# Altium integrated library Motorola Microcontroller 32-Bit.IntLib: 337 symbols (part 26 of 29)
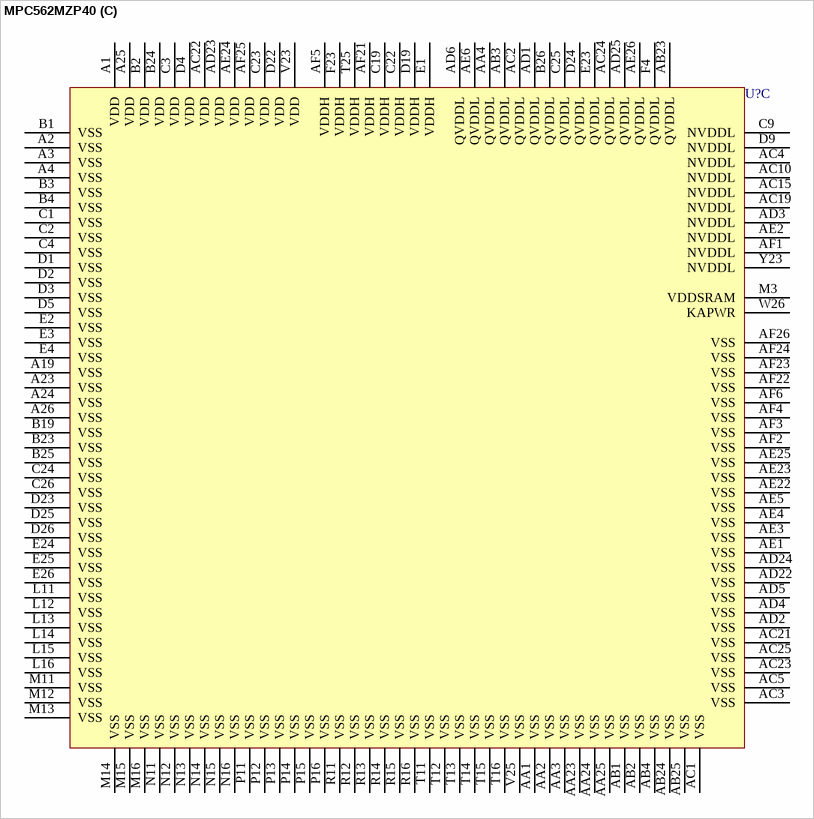
[diagram p264: symbol MPC562MZP40]

## MPC562MZP40
designator U?
32-Bit PowerPC Microcontroller; Published: 21-Mar-2003; LatestRevisionDate: 13-Apr-2006; LatestRevisionNote: IPC-7351 Footprint Added.; DatasheetVersion: 29-Jun-2001; PackageVersion: Jun-2001; PackageReference: 1164-01; Publisher: Altium Limited; PackageDescription: 388-Ball Plastic Ball Grid Array 1 mm Pitch; ComponentLink1Description: Manufacturer Link; ComponentLink1URL: http://www.freescale.com/
footprint 1164-01 (BGA, 388-Leads, Body 27x27mm, Pitch 1mm)
3D model MPC562-1164-01 (388-Ball Plastic Ball Grid Array 1 mm Pitch)
part A pins: AA26 XFC, AB26 VSSSYN (power), AC6 ADDR/SGPIOA10 (io), AC7 ADDR/SGPIOA18 (io), AC8 ADDR/SGPIOA20 (io), AC9 ADDR/SGPIOA23 (io), AC11 ADDR/SGPIOA26 (io), AC12 DATA/SGPIOD1 (io), AC13 DATA/SGPIOD5 (io), AC14 DATA/SGPIOD7 (io), AC16 DATA/SGPIOD9 (io), AC17 DATA/SGPIOD11 (io), AC18 DATA/SGPIOD12 (io), AC20 DATA/SGPIOD14 (io), AC26 EXTAL, AD7 ADDR/SGPIOA13 (io), AD8 ADDR/SGPIOA16 (io), AD9 ADDR/SGPIOA19 (io), AD10 ADDR/SGPIOA21 (io), AD11 ADDR/SGPIOA24 (io), AD12 ADDR/SGPIOA25 (io), AD13 DATA/SGPIOD0 (io), AD14 DATA/SGPIOD28 (io), AD15 DATA/SGPIOD26 (io), AD16 DATA/SGPIOD24 (io), AD17 DATA/SGPIOD22 (io), AD18 DATA/SGPIOD13 (io), AD19 DATA/SGPIOD15 (io), AD20 DATA/SGPIOD16 (io), AD21 ~{IRQ}5/SGPIOC5/MODCK1 (io), AD26 XTAL, AE7 ADDR/SGPIOA14 (io), AE8 ADDR/SGPIOA17 (io), AE9 ADDR/SGPIOA31 (io), AE10 ADDR/SGPIOA30 (io), AE11 ADDR/SGPIOA28 (io), AE12 ADDR/SGPIOA29 (io), AE13 DATA/SGPIOD30 (io), AE14 DATA/SGPIOD29 (io), AE15 DATA/SGPIOD27 (io), AE16 DATA/SGPIOD25 (io), AE17 DATA/SGPIOD23 (io), AE18 DATA/SGPIOD21 (io), AE19 DATA/SGPIOD19 (io), AE20 DATA/SGPIOD17 (io), AE21 ~{IRQ}6/MODCK2 (io), AF7 ADDR/SGPIOA15 (io), AF8 ADDR/SGPIOA9 (io), AF9 ADDR/SGPIOA8 (io), AF10 ADDR/SGPIOA22 (io), AF11 ADDR/SGPIOA27 (io), AF12 DATA/SGPIOD31 (io), AF13 DATA/SGPIOD3 (io), AF14 DATA/SGPIOD2 (io), AF15 DATA/SGPIOD4 (io), AF16 DATA/SGPIOD6 (io), AF17 DATA/SGPIOD8 (io), AF18 DATA/SGPIOD10 (io), AF19 DATA/SGPIOD20 (io), AF20 DATA/SGPIOD18 (io), L1 JCOMP/~{RSTI} (in), L2 TCK/DSCK/MCKI (in), M1 TDI/DSDI/MDI0 (in), M2 TMS/~{EVTI} (in), M4 TDO/DSDO/MDO0 (hiz), N1 ~{IRQ}3/~{KR}/~{RETRY}/SGPIOC3 (io), N2 ~{IWP}0/VFLS0 (out), N3 ~{IWP}1/VFLS1 (out), N4 SGPIOC6/FRZ/~{PTR} (io), N23 PCS2/QGPIO2 (io), N24 PCS1/QGPIO1 (io), N25 PCS0/~{SS}/QGPIO0 (io), P1 ~{IRQ}4/~{AT}2/SGPIOC4 (io), P2 ~{IRQ}2/~{CR}/SGPIOC2/~{MTS} (io), P3 ~{IRQ}0/SGPIOC0/MDO4 (io), P4 ~{IRQ}1/~{RSV}/SGPIOC1 (io), P23 SCK/QGPIO6 (io), P24 MOSI/QGPIO5 (io), P25 MISO/QGPIO4 (io), P26 PCS3/QGPIO3 (io), R1 SGPIOC7/~{IRQOUT}/LWP0 (io), R2 ~{BB}/VF2/IWP3 (io), R3 ~{BG}/VF0/LWP1 (io), R4 ~{BR}/VF1/IWP2 (io), R23 RXD1/QGPI1 (in), R24 TXD2/QGPO2/C_CNTX0 (out), R25 TXD1/QGPO1 (out), R26 PULL_SEL (in), T1 ~{WE}0/~{BE}0/~{AT}0 (out), T2 ~{WE}1/~{BE}1/~{AT}1 (out), T3 ~{WE}2/~{BE}2/~{AT}2 (out), T4 ~{WE}3/~{BE}3/~{AT}3 (out), T26 RXD2/QGPI2/C_CNRX0 (in), U1 ~{CS}0 (out), U2 ~{CS}1 (out), U3 ~{CS}2 (out), U4 ~{CS}3 (out), U23 CLKOUT (out), V1 RD/~{WR} (io), V2 ~{OE} (out), V3 ~{TEA} (io), V4 TSIZ0 (io), V24 EXTCLK (in), V26 ENGCLK/BUCLK (out), W1 TSIZ1 (io), W2 ~{TS} (io), W3 ~{TA} (io), W4 ~{BDIP} (io), W23 ~{HRESET} (io), W24 ~{SRESET} (io), W25 ~{PORESET}/~{RESET} (in), Y1 ~{BURST} (io), Y2 ~{BI}/~{STS} (io), Y3 ADDR/SGPIOA12 (io), Y4 ADDR/SGPIOA11 (io), Y24 ~{IRQ}7/MODCK3 (io), Y25 ~{RSTCONF}/TEXP (io), Y26 VDDSYN (power)
part B pins: A5 A_TPUCH3 (io), A6 A_TPUCH7 (io), A7 A_TPUCH11 (io), A8 A_TPUCH15 (io), A9 VSSA (power), A10 VRL, A11 A_AN3/ANZ/PQB3 (io), A12 A_AN51/PQB7 (io), A13 A_AN55/PQA3 (io), A14 A_AN56/PQA4 (io), A15 B_AN0/ANW/PQB0 (io), A16 B_AN48/PQB4 (io), A17 B_AN52/MA0/PQA0 (io), A18 B_AN56/PQA4 (io), A20 ETRIG2/PCS7 (io), A21 MDA13 (io), A22 MDA28 (io), B5 A_TPUCH2 (io), B6 A_TPUCH6 (io), B7 A_TPUCH10 (io), B8 A_TPUCH14 (io), B9 VSSA (power), B10 ALTREF, B11 A_AN2/ANY/PQB2 (io), B12 A_AN50/PQB6 (io), B13 A_AN54/MA2/PQA2 (io), B14 A_AN58/PQA6 (io), B15 B_AN1/ANX/PQB1 (io), B16 B_AN49/PQB5 (io), B17 B_AN53/MA1/PQA1 (io), B18 B_AN57/PQA5 (io), B20 ETRIG1/PCS6 (io), B21 MDA14 (io), B22 MDA29 (io), C5 A_TPUCH1 (io), C6 A_TPUCH4 (io), C7 A_TPUCH8 (io), C8 A_TPUCH12 (io), C10 VRH, C11 A_AN0/ANW/PQB0 (io), C12 A_AN48/PQB4 (io), C13 A_AN52/MA0/PQA0 (io), C14 A_AN59/PQA7 (io), C15 B_AN2/ANY/PQB2 (io), C16 B_AN50/PQB6 (io), C17 B_AN54/MA2/PQA2 (io), C18 B_AN58/PQA6 (io), C20 MDA11 (io), C21 MDA15 (io), D6 A_TPUCH5 (io), D7 A_TPUCH9 (io), D8 A_TPUCH13 (io), D10 VDDA (power), D11 A_AN1/ANX/PQB1 (io), D12 A_AN49/PQB5 (io), D13 A_AN53/MA1/PQA1 (io), D14 A_AN57/PQA5 (io), D15 B_AN3/ANZ/PQB3 (io), D16 B_AN51/PQB7 (io), D17 B_AN55/PQA3 (io), D18 B_AN59/PQA7 (io), D20 MDA12 (io), D21 MDA27 (io), F1 B_T2CLK/PCS4 (io), F2 A_T2CLK/PCS5 (io), F3 A_TPUCH0 (io), F24 MDA30 (io), F25 MDA31 (io), F26 MPWM0/MDI1 (io), G1 B_TPUCH12 (io), G2 B_TPUCH13 (io), G3 B_TPUCH14 (io), G4 B_TPUCH15 (io), G23 MPWM1/MDO2 (io), G24 MPWM16 (io), G25 MPWM3/PPM_RX1 (io), G26 MPWM2/PPM_TX1 (io), H1 B_TPUCH8 (io), H2 B_TPUCH9 (io), H3 B_TPUCH10 (io), H4 B_TPUCH11 (io), H23 MPWM17/MDO3 (io), H24 MPWM18/MDO6 (io), H25 MPWM19/MDO7 (io), H26 MPIO32B5/MDO5 (io), J1 B_TPUCH4 (io), J2 B_TPUCH5 (io), J3 B_TPUCH6 (io), J4 B_TPUCH7 (io), J23 MPIO32B6/MPWM4/MDO6 (io), J24 MPIO32B7/MPWM5 (io), J25 MPIO32B8/MPWM20 (io), J26 MPIO32B9/MPWM21 (io), K1 B_TPUCH0 (io), K2 B_TPUCH1 (io), K3 B_TPUCH2 (io), K4 B_TPUCH3 (io), K23 MPIO32B12/C_CNTX0 (io), K24 MPIO32B11/C_CNRX0 (io), K25 MPIO32B10/PPM_TSYNC (io), K26 MPIO32B13/PPM_TCLK (io), L3 B_CNRX0 (in), L4 B_CNTX0 (out), L23 VF0/MPIO32B0/MDO1 (io), L24 VF1/MPIO32B1/MCKO (io), L25 MPIO32B15/PPM_TX0 (io), L26 MPIO32B14/PPM_RX0 (io), M23 A_CNTX0 (out), M24 VF2/MPIO32B2/~{MSEI} (io), M25 VFLS0/MPIO32B3/~{MSEO} (io), M26 VFLS1/MPIO32B4 (io), N26 A_CNRX0 (in), T23 NC, T24 NC, U24 NC, U25 NC, U26 NC
part C pins: A1 VDD (power), A2 VSS (power), A3 VSS (power), A4 VSS (power), A19 VSS (power), A23 VSS (power), A24 VSS (power), A25 VDD (power), A26 VSS (power), AA1 VSS (power), AA2 VSS (power), AA3 VSS (power), AA4 QVDDL (power), AA23 VSS (power), AA24 VSS (power), AA25 VSS (power), AB1 VSS (power), AB2 VSS (power), AB3 QVDDL (power), AB4 VSS (power), AB23 QVDDL (power), AB24 VSS (power), AB25 VSS (power), AC1 VSS (power), AC2 QVDDL (power), AC3 VSS (power), AC4 NVDDL (power), AC5 VSS (power), AC10 NVDDL (power), AC15 NVDDL (power), AC19 NVDDL (power), AC21 VSS (power), AC22 VDD (power), AC23 VSS (power), AC24 QVDDL (power), AC25 VSS (power), AD1 QVDDL (power), AD2 VSS (power), AD3 NVDDL (power), AD4 VSS (power), AD5 VSS (power), AD6 QVDDL (power), AD22 VSS (power), AD23 VDD (power), AD24 VSS (power), AD25 QVDDL (power), AE1 VSS (power), AE2 NVDDL (power), AE3 VSS (power), AE4 VSS (power), AE5 VSS (power), AE6 QVDDL (power), AE22 VSS (power), AE23 VSS (power), AE24 VDD (power), AE25 VSS (power), AE26 QVDDL (power), AF1 NVDDL (power), AF2 VSS (power), AF3 VSS (power), AF4 VSS (power), AF5 VDDH (power), AF6 VSS (power), AF21 VDDH (power), AF22 VSS (power), AF23 VSS (power), AF24 VSS (power), AF25 VDD (power), AF26 VSS (power), B1 VSS (power), B2 VDD (power), B3 VSS (power), B4 VSS (power), B19 VSS (power), B23 VSS (power), B24 VDD (power), B25 VSS (power), B26 QVDDL (power), C1 VSS (power), C2 VSS (power), C3 VDD (power), C4 VSS (power), C9 NVDDL (power), C19 VDDH (power), C22 VDDH (power), C23 VDD (power), C24 VSS (power), C25 QVDDL (power), C26 VSS (power), D1 VSS (power), D2 VSS (power), D3 VSS (power), D4 VDD (power), D5 VSS (power), D9 NVDDL (power), D19 VDDH (power), D22 VDD (power), D23 VSS (power), D24 QVDDL (power), D25 VSS (power), D26 VSS (power), E1 VDDH (power), E2 VSS (power), E3 VSS (power), E4 VSS (power), E23 QVDDL (power), E24 VSS (power), E25 VSS (power), E26 VSS (power), F4 QVDDL (power), F23 VDDH (power), L11 VSS (power), L12 VSS (power), L13 VSS (power), L14 VSS (power), L15 VSS (power), L16 VSS (power), M3 VDDSRAM (power), M11 VSS (power), M12 VSS (power), M13 VSS (power), M14 VSS (power), M15 VSS (power), M16 VSS (power), N11 VSS (power), N12 VSS (power), N13 VSS (power), N14 VSS (power), N15 VSS (power), N16 VSS (power), P11 VSS (power), P12 VSS (power), P13 VSS (power), P14 VSS (power), P15 VSS (power), P16 VSS (power), R11 VSS (power), R12 VSS (power), R13 VSS (power), R14 VSS (power), R15 VSS (power), R16 VSS (power), T11 VSS (power), T12 VSS (power), T13 VSS (power), T14 VSS (power), T15 VSS (power), T16 VSS (power), T25 VDDH (power), V23 VDD (power), V25 VSS (power), W26 KAPWR (power), Y23 NVDDL (power)

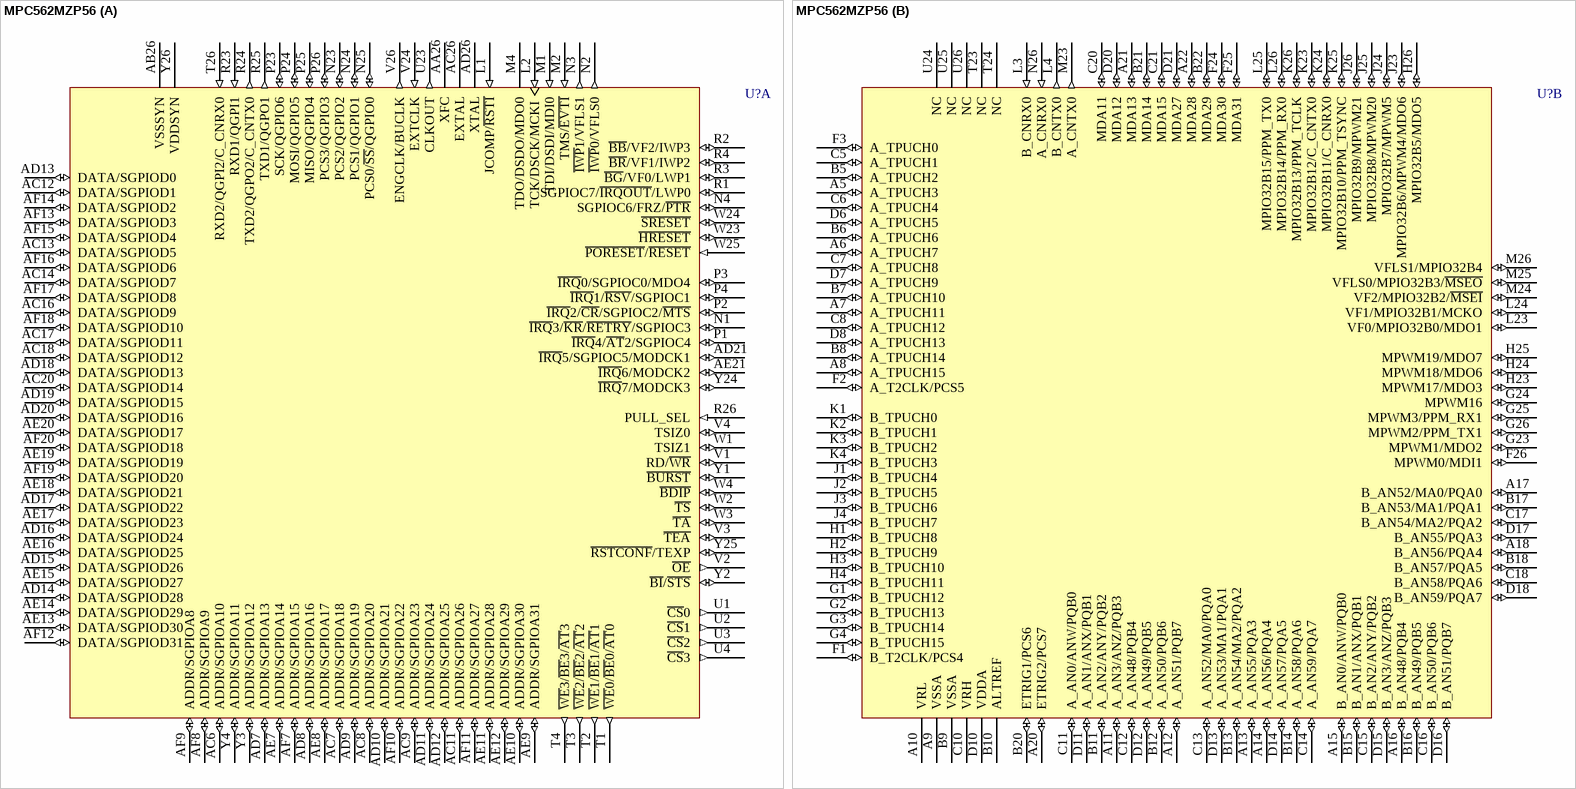
[diagram p215: symbol MPC562MZP56]

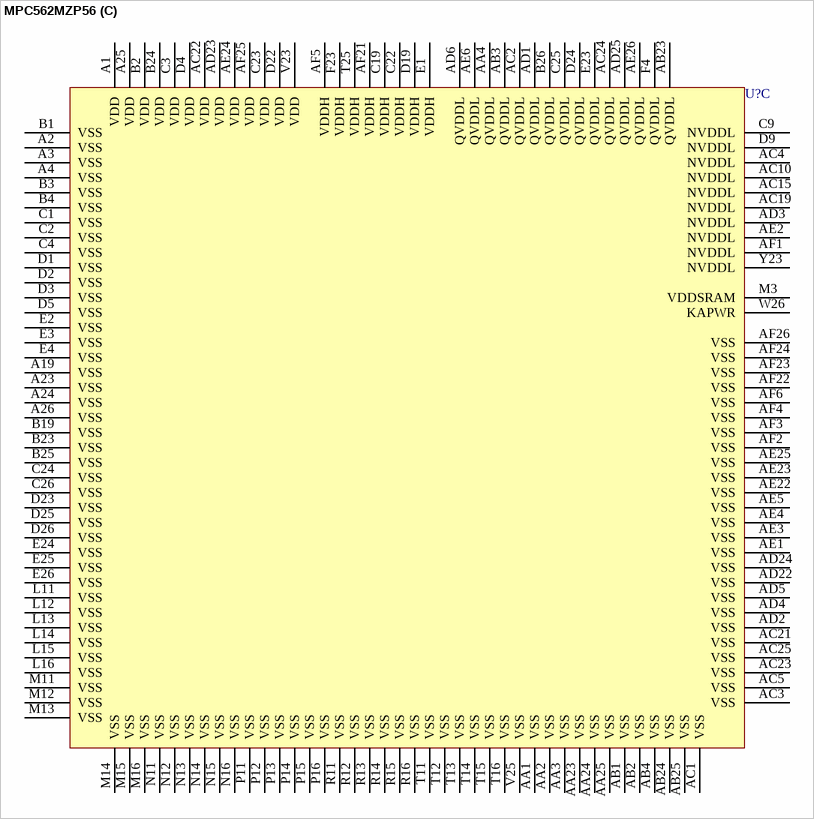
[diagram p216: symbol MPC562MZP56]

## MPC562MZP56
designator U?
32-Bit PowerPC Microcontroller; Published: 21-Mar-2003; LatestRevisionDate: 13-Apr-2006; LatestRevisionNote: IPC-7351 Footprint Added.; DatasheetVersion: 29-Jun-2001; PackageVersion: Jun-2001; PackageReference: 1164-01; Publisher: Altium Limited; PackageDescription: 388-Ball Plastic Ball Grid Array 1 mm Pitch; ComponentLink1Description: Manufacturer Link; ComponentLink1URL: http://www.freescale.com/
footprint 1164-01 (BGA, 388-Leads, Body 27x27mm, Pitch 1mm)
3D model MPC562-1164-01 (388-Ball Plastic Ball Grid Array 1 mm Pitch)
part A pins: AA26 XFC, AB26 VSSSYN (power), AC6 ADDR/SGPIOA10 (io), AC7 ADDR/SGPIOA18 (io), AC8 ADDR/SGPIOA20 (io), AC9 ADDR/SGPIOA23 (io), AC11 ADDR/SGPIOA26 (io), AC12 DATA/SGPIOD1 (io), AC13 DATA/SGPIOD5 (io), AC14 DATA/SGPIOD7 (io), AC16 DATA/SGPIOD9 (io), AC17 DATA/SGPIOD11 (io), AC18 DATA/SGPIOD12 (io), AC20 DATA/SGPIOD14 (io), AC26 EXTAL, AD7 ADDR/SGPIOA13 (io), AD8 ADDR/SGPIOA16 (io), AD9 ADDR/SGPIOA19 (io), AD10 ADDR/SGPIOA21 (io), AD11 ADDR/SGPIOA24 (io), AD12 ADDR/SGPIOA25 (io), AD13 DATA/SGPIOD0 (io), AD14 DATA/SGPIOD28 (io), AD15 DATA/SGPIOD26 (io), AD16 DATA/SGPIOD24 (io), AD17 DATA/SGPIOD22 (io), AD18 DATA/SGPIOD13 (io), AD19 DATA/SGPIOD15 (io), AD20 DATA/SGPIOD16 (io), AD21 ~{IRQ}5/SGPIOC5/MODCK1 (io), AD26 XTAL, AE7 ADDR/SGPIOA14 (io), AE8 ADDR/SGPIOA17 (io), AE9 ADDR/SGPIOA31 (io), AE10 ADDR/SGPIOA30 (io), AE11 ADDR/SGPIOA28 (io), AE12 ADDR/SGPIOA29 (io), AE13 DATA/SGPIOD30 (io), AE14 DATA/SGPIOD29 (io), AE15 DATA/SGPIOD27 (io), AE16 DATA/SGPIOD25 (io), AE17 DATA/SGPIOD23 (io), AE18 DATA/SGPIOD21 (io), AE19 DATA/SGPIOD19 (io), AE20 DATA/SGPIOD17 (io), AE21 ~{IRQ}6/MODCK2 (io), AF7 ADDR/SGPIOA15 (io), AF8 ADDR/SGPIOA9 (io), AF9 ADDR/SGPIOA8 (io), AF10 ADDR/SGPIOA22 (io), AF11 ADDR/SGPIOA27 (io), AF12 DATA/SGPIOD31 (io), AF13 DATA/SGPIOD3 (io), AF14 DATA/SGPIOD2 (io), AF15 DATA/SGPIOD4 (io), AF16 DATA/SGPIOD6 (io), AF17 DATA/SGPIOD8 (io), AF18 DATA/SGPIOD10 (io), AF19 DATA/SGPIOD20 (io), AF20 DATA/SGPIOD18 (io), L1 JCOMP/~{RSTI} (in), L2 TCK/DSCK/MCKI (in), M1 TDI/DSDI/MDI0 (in), M2 TMS/~{EVTI} (in), M4 TDO/DSDO/MDO0 (hiz), N1 ~{IRQ}3/~{KR}/~{RETRY}/SGPIOC3 (io), N2 ~{IWP}0/VFLS0 (out), N3 ~{IWP}1/VFLS1 (out), N4 SGPIOC6/FRZ/~{PTR} (io), N23 PCS2/QGPIO2 (io), N24 PCS1/QGPIO1 (io), N25 PCS0/~{SS}/QGPIO0 (io), P1 ~{IRQ}4/~{AT}2/SGPIOC4 (io), P2 ~{IRQ}2/~{CR}/SGPIOC2/~{MTS} (io), P3 ~{IRQ}0/SGPIOC0/MDO4 (io), P4 ~{IRQ}1/~{RSV}/SGPIOC1 (io), P23 SCK/QGPIO6 (io), P24 MOSI/QGPIO5 (io), P25 MISO/QGPIO4 (io), P26 PCS3/QGPIO3 (io), R1 SGPIOC7/~{IRQOUT}/LWP0 (io), R2 ~{BB}/VF2/IWP3 (io), R3 ~{BG}/VF0/LWP1 (io), R4 ~{BR}/VF1/IWP2 (io), R23 RXD1/QGPI1 (in), R24 TXD2/QGPO2/C_CNTX0 (out), R25 TXD1/QGPO1 (out), R26 PULL_SEL (in), T1 ~{WE}0/~{BE}0/~{AT}0 (out), T2 ~{WE}1/~{BE}1/~{AT}1 (out), T3 ~{WE}2/~{BE}2/~{AT}2 (out), T4 ~{WE}3/~{BE}3/~{AT}3 (out), T26 RXD2/QGPI2/C_CNRX0 (in), U1 ~{CS}0 (out), U2 ~{CS}1 (out), U3 ~{CS}2 (out), U4 ~{CS}3 (out), U23 CLKOUT (out), V1 RD/~{WR} (io), V2 ~{OE} (out), V3 ~{TEA} (io), V4 TSIZ0 (io), V24 EXTCLK (in), V26 ENGCLK/BUCLK (out), W1 TSIZ1 (io), W2 ~{TS} (io), W3 ~{TA} (io), W4 ~{BDIP} (io), W23 ~{HRESET} (io), W24 ~{SRESET} (io), W25 ~{PORESET}/~{RESET} (in), Y1 ~{BURST} (io), Y2 ~{BI}/~{STS} (io), Y3 ADDR/SGPIOA12 (io), Y4 ADDR/SGPIOA11 (io), Y24 ~{IRQ}7/MODCK3 (io), Y25 ~{RSTCONF}/TEXP (io), Y26 VDDSYN (power)
part B pins: A5 A_TPUCH3 (io), A6 A_TPUCH7 (io), A7 A_TPUCH11 (io), A8 A_TPUCH15 (io), A9 VSSA (power), A10 VRL, A11 A_AN3/ANZ/PQB3 (io), A12 A_AN51/PQB7 (io), A13 A_AN55/PQA3 (io), A14 A_AN56/PQA4 (io), A15 B_AN0/ANW/PQB0 (io), A16 B_AN48/PQB4 (io), A17 B_AN52/MA0/PQA0 (io), A18 B_AN56/PQA4 (io), A20 ETRIG2/PCS7 (io), A21 MDA13 (io), A22 MDA28 (io), B5 A_TPUCH2 (io), B6 A_TPUCH6 (io), B7 A_TPUCH10 (io), B8 A_TPUCH14 (io), B9 VSSA (power), B10 ALTREF, B11 A_AN2/ANY/PQB2 (io), B12 A_AN50/PQB6 (io), B13 A_AN54/MA2/PQA2 (io), B14 A_AN58/PQA6 (io), B15 B_AN1/ANX/PQB1 (io), B16 B_AN49/PQB5 (io), B17 B_AN53/MA1/PQA1 (io), B18 B_AN57/PQA5 (io), B20 ETRIG1/PCS6 (io), B21 MDA14 (io), B22 MDA29 (io), C5 A_TPUCH1 (io), C6 A_TPUCH4 (io), C7 A_TPUCH8 (io), C8 A_TPUCH12 (io), C10 VRH, C11 A_AN0/ANW/PQB0 (io), C12 A_AN48/PQB4 (io), C13 A_AN52/MA0/PQA0 (io), C14 A_AN59/PQA7 (io), C15 B_AN2/ANY/PQB2 (io), C16 B_AN50/PQB6 (io), C17 B_AN54/MA2/PQA2 (io), C18 B_AN58/PQA6 (io), C20 MDA11 (io), C21 MDA15 (io), D6 A_TPUCH5 (io), D7 A_TPUCH9 (io), D8 A_TPUCH13 (io), D10 VDDA (power), D11 A_AN1/ANX/PQB1 (io), D12 A_AN49/PQB5 (io), D13 A_AN53/MA1/PQA1 (io), D14 A_AN57/PQA5 (io), D15 B_AN3/ANZ/PQB3 (io), D16 B_AN51/PQB7 (io), D17 B_AN55/PQA3 (io), D18 B_AN59/PQA7 (io), D20 MDA12 (io), D21 MDA27 (io), F1 B_T2CLK/PCS4 (io), F2 A_T2CLK/PCS5 (io), F3 A_TPUCH0 (io), F24 MDA30 (io), F25 MDA31 (io), F26 MPWM0/MDI1 (io), G1 B_TPUCH12 (io), G2 B_TPUCH13 (io), G3 B_TPUCH14 (io), G4 B_TPUCH15 (io), G23 MPWM1/MDO2 (io), G24 MPWM16 (io), G25 MPWM3/PPM_RX1 (io), G26 MPWM2/PPM_TX1 (io), H1 B_TPUCH8 (io), H2 B_TPUCH9 (io), H3 B_TPUCH10 (io), H4 B_TPUCH11 (io), H23 MPWM17/MDO3 (io), H24 MPWM18/MDO6 (io), H25 MPWM19/MDO7 (io), H26 MPIO32B5/MDO5 (io), J1 B_TPUCH4 (io), J2 B_TPUCH5 (io), J3 B_TPUCH6 (io), J4 B_TPUCH7 (io), J23 MPIO32B6/MPWM4/MDO6 (io), J24 MPIO32B7/MPWM5 (io), J25 MPIO32B8/MPWM20 (io), J26 MPIO32B9/MPWM21 (io), K1 B_TPUCH0 (io), K2 B_TPUCH1 (io), K3 B_TPUCH2 (io), K4 B_TPUCH3 (io), K23 MPIO32B12/C_CNTX0 (io), K24 MPIO32B11/C_CNRX0 (io), K25 MPIO32B10/PPM_TSYNC (io), K26 MPIO32B13/PPM_TCLK (io), L3 B_CNRX0 (in), L4 B_CNTX0 (out), L23 VF0/MPIO32B0/MDO1 (io), L24 VF1/MPIO32B1/MCKO (io), L25 MPIO32B15/PPM_TX0 (io), L26 MPIO32B14/PPM_RX0 (io), M23 A_CNTX0 (out), M24 VF2/MPIO32B2/~{MSEI} (io), M25 VFLS0/MPIO32B3/~{MSEO} (io), M26 VFLS1/MPIO32B4 (io), N26 A_CNRX0 (in), T23 NC, T24 NC, U24 NC, U25 NC, U26 NC
part C pins: A1 VDD (power), A2 VSS (power), A3 VSS (power), A4 VSS (power), A19 VSS (power), A23 VSS (power), A24 VSS (power), A25 VDD (power), A26 VSS (power), AA1 VSS (power), AA2 VSS (power), AA3 VSS (power), AA4 QVDDL (power), AA23 VSS (power), AA24 VSS (power), AA25 VSS (power), AB1 VSS (power), AB2 VSS (power), AB3 QVDDL (power), AB4 VSS (power), AB23 QVDDL (power), AB24 VSS (power), AB25 VSS (power), AC1 VSS (power), AC2 QVDDL (power), AC3 VSS (power), AC4 NVDDL (power), AC5 VSS (power), AC10 NVDDL (power), AC15 NVDDL (power), AC19 NVDDL (power), AC21 VSS (power), AC22 VDD (power), AC23 VSS (power), AC24 QVDDL (power), AC25 VSS (power), AD1 QVDDL (power), AD2 VSS (power), AD3 NVDDL (power), AD4 VSS (power), AD5 VSS (power), AD6 QVDDL (power), AD22 VSS (power), AD23 VDD (power), AD24 VSS (power), AD25 QVDDL (power), AE1 VSS (power), AE2 NVDDL (power), AE3 VSS (power), AE4 VSS (power), AE5 VSS (power), AE6 QVDDL (power), AE22 VSS (power), AE23 VSS (power), AE24 VDD (power), AE25 VSS (power), AE26 QVDDL (power), AF1 NVDDL (power), AF2 VSS (power), AF3 VSS (power), AF4 VSS (power), AF5 VDDH (power), AF6 VSS (power), AF21 VDDH (power), AF22 VSS (power), AF23 VSS (power), AF24 VSS (power), AF25 VDD (power), AF26 VSS (power), B1 VSS (power), B2 VDD (power), B3 VSS (power), B4 VSS (power), B19 VSS (power), B23 VSS (power), B24 VDD (power), B25 VSS (power), B26 QVDDL (power), C1 VSS (power), C2 VSS (power), C3 VDD (power), C4 VSS (power), C9 NVDDL (power), C19 VDDH (power), C22 VDDH (power), C23 VDD (power), C24 VSS (power), C25 QVDDL (power), C26 VSS (power), D1 VSS (power), D2 VSS (power), D3 VSS (power), D4 VDD (power), D5 VSS (power), D9 NVDDL (power), D19 VDDH (power), D22 VDD (power), D23 VSS (power), D24 QVDDL (power), D25 VSS (power), D26 VSS (power), E1 VDDH (power), E2 VSS (power), E3 VSS (power), E4 VSS (power), E23 QVDDL (power), E24 VSS (power), E25 VSS (power), E26 VSS (power), F4 QVDDL (power), F23 VDDH (power), L11 VSS (power), L12 VSS (power), L13 VSS (power), L14 VSS (power), L15 VSS (power), L16 VSS (power), M3 VDDSRAM (power), M11 VSS (power), M12 VSS (power), M13 VSS (power), M14 VSS (power), M15 VSS (power), M16 VSS (power), N11 VSS (power), N12 VSS (power), N13 VSS (power), N14 VSS (power), N15 VSS (power), N16 VSS (power), P11 VSS (power), P12 VSS (power), P13 VSS (power), P14 VSS (power), P15 VSS (power), P16 VSS (power), R11 VSS (power), R12 VSS (power), R13 VSS (power), R14 VSS (power), R15 VSS (power), R16 VSS (power), T11 VSS (power), T12 VSS (power), T13 VSS (power), T14 VSS (power), T15 VSS (power), T16 VSS (power), T25 VDDH (power), V23 VDD (power), V25 VSS (power), W26 KAPWR (power), Y23 NVDDL (power)

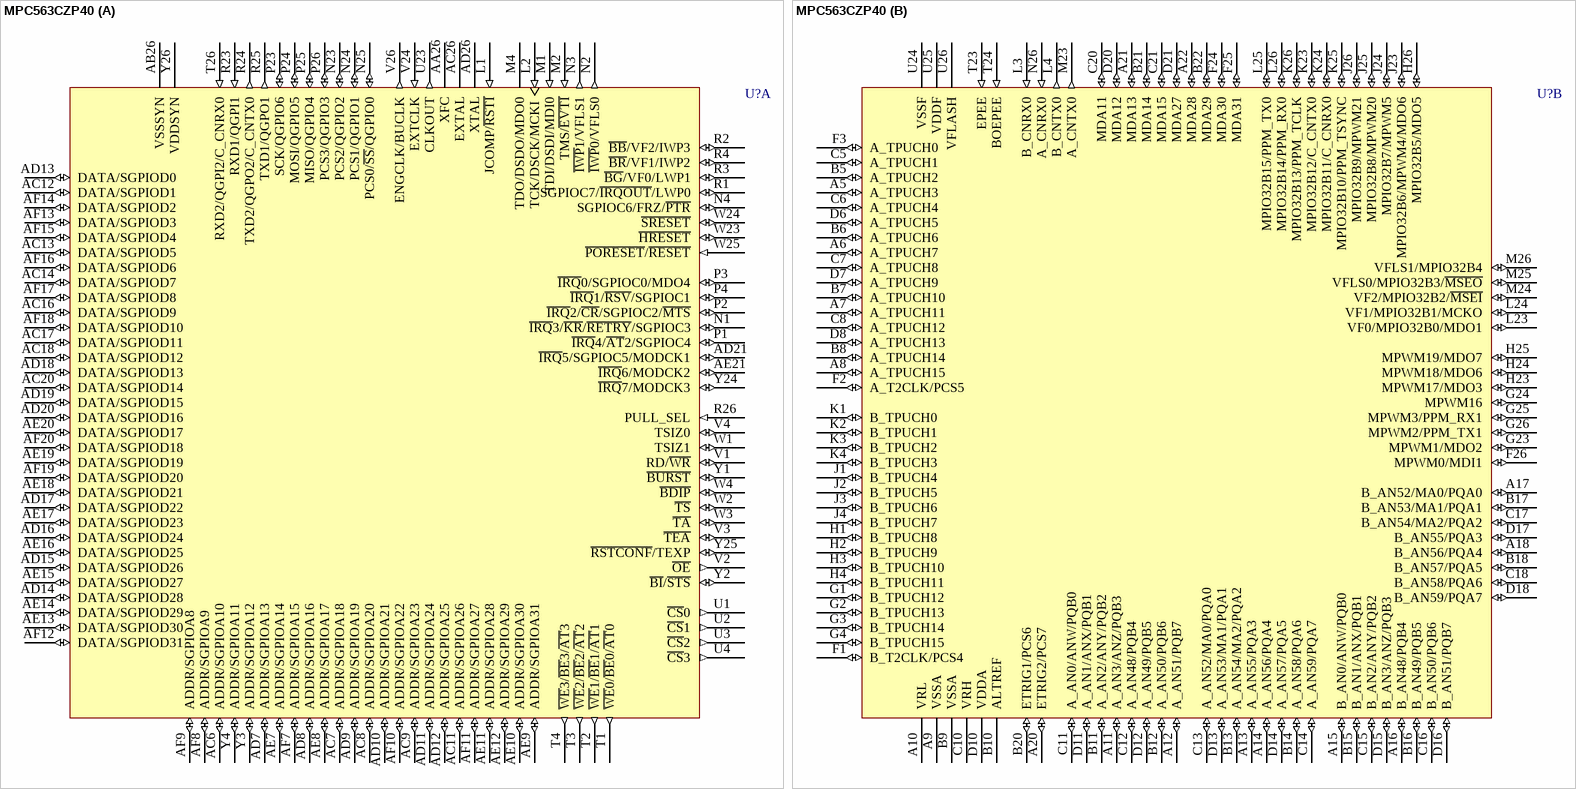
[diagram p217: symbol MPC563CZP40]

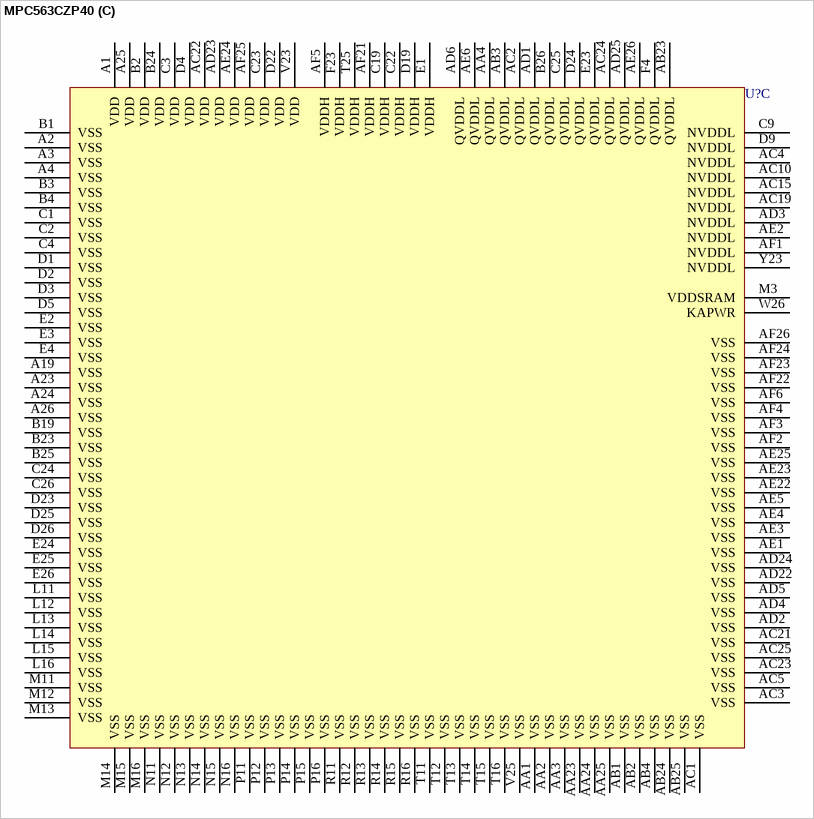
[diagram p218: symbol MPC563CZP40]

## MPC563CZP40
designator U?
32-Bit PowerPC Microcontroller; Published: 21-Mar-2003; LatestRevisionDate: 13-Apr-2006; LatestRevisionNote: IPC-7351 Footprint Added.; DatasheetVersion: 29-Jun-2001; PackageVersion: Jun-2001; PackageReference: 1164-01; Publisher: Altium Limited; PackageDescription: 388-Ball Plastic Ball Grid Array 1 mm Pitch; ComponentLink1Description: Manufacturer Link; ComponentLink1URL: http://www.freescale.com/
footprint 1164-01 (BGA, 388-Leads, Body 27x27mm, Pitch 1mm)
3D model MPC563-1164-01 (388-Ball Plastic Ball Grid Array 1 mm Pitch)
part A pins: AA26 XFC, AB26 VSSSYN (power), AC6 ADDR/SGPIOA10 (io), AC7 ADDR/SGPIOA18 (io), AC8 ADDR/SGPIOA20 (io), AC9 ADDR/SGPIOA23 (io), AC11 ADDR/SGPIOA26 (io), AC12 DATA/SGPIOD1 (io), AC13 DATA/SGPIOD5 (io), AC14 DATA/SGPIOD7 (io), AC16 DATA/SGPIOD9 (io), AC17 DATA/SGPIOD11 (io), AC18 DATA/SGPIOD12 (io), AC20 DATA/SGPIOD14 (io), AC26 EXTAL, AD7 ADDR/SGPIOA13 (io), AD8 ADDR/SGPIOA16 (io), AD9 ADDR/SGPIOA19 (io), AD10 ADDR/SGPIOA21 (io), AD11 ADDR/SGPIOA24 (io), AD12 ADDR/SGPIOA25 (io), AD13 DATA/SGPIOD0 (io), AD14 DATA/SGPIOD28 (io), AD15 DATA/SGPIOD26 (io), AD16 DATA/SGPIOD24 (io), AD17 DATA/SGPIOD22 (io), AD18 DATA/SGPIOD13 (io), AD19 DATA/SGPIOD15 (io), AD20 DATA/SGPIOD16 (io), AD21 ~{IRQ}5/SGPIOC5/MODCK1 (io), AD26 XTAL, AE7 ADDR/SGPIOA14 (io), AE8 ADDR/SGPIOA17 (io), AE9 ADDR/SGPIOA31 (io), AE10 ADDR/SGPIOA30 (io), AE11 ADDR/SGPIOA28 (io), AE12 ADDR/SGPIOA29 (io), AE13 DATA/SGPIOD30 (io), AE14 DATA/SGPIOD29 (io), AE15 DATA/SGPIOD27 (io), AE16 DATA/SGPIOD25 (io), AE17 DATA/SGPIOD23 (io), AE18 DATA/SGPIOD21 (io), AE19 DATA/SGPIOD19 (io), AE20 DATA/SGPIOD17 (io), AE21 ~{IRQ}6/MODCK2 (io), AF7 ADDR/SGPIOA15 (io), AF8 ADDR/SGPIOA9 (io), AF9 ADDR/SGPIOA8 (io), AF10 ADDR/SGPIOA22 (io), AF11 ADDR/SGPIOA27 (io), AF12 DATA/SGPIOD31 (io), AF13 DATA/SGPIOD3 (io), AF14 DATA/SGPIOD2 (io), AF15 DATA/SGPIOD4 (io), AF16 DATA/SGPIOD6 (io), AF17 DATA/SGPIOD8 (io), AF18 DATA/SGPIOD10 (io), AF19 DATA/SGPIOD20 (io), AF20 DATA/SGPIOD18 (io), L1 JCOMP/~{RSTI} (in), L2 TCK/DSCK/MCKI (in), M1 TDI/DSDI/MDI0 (in), M2 TMS/~{EVTI} (in), M4 TDO/DSDO/MDO0 (hiz), N1 ~{IRQ}3/~{KR}/~{RETRY}/SGPIOC3 (io), N2 ~{IWP}0/VFLS0 (out), N3 ~{IWP}1/VFLS1 (out), N4 SGPIOC6/FRZ/~{PTR} (io), N23 PCS2/QGPIO2 (io), N24 PCS1/QGPIO1 (io), N25 PCS0/~{SS}/QGPIO0 (io), P1 ~{IRQ}4/~{AT}2/SGPIOC4 (io), P2 ~{IRQ}2/~{CR}/SGPIOC2/~{MTS} (io), P3 ~{IRQ}0/SGPIOC0/MDO4 (io), P4 ~{IRQ}1/~{RSV}/SGPIOC1 (io), P23 SCK/QGPIO6 (io), P24 MOSI/QGPIO5 (io), P25 MISO/QGPIO4 (io), P26 PCS3/QGPIO3 (io), R1 SGPIOC7/~{IRQOUT}/LWP0 (io), R2 ~{BB}/VF2/IWP3 (io), R3 ~{BG}/VF0/LWP1 (io), R4 ~{BR}/VF1/IWP2 (io), R23 RXD1/QGPI1 (in), R24 TXD2/QGPO2/C_CNTX0 (out), R25 TXD1/QGPO1 (out), R26 PULL_SEL (in), T1 ~{WE}0/~{BE}0/~{AT}0 (out), T2 ~{WE}1/~{BE}1/~{AT}1 (out), T3 ~{WE}2/~{BE}2/~{AT}2 (out), T4 ~{WE}3/~{BE}3/~{AT}3 (out), T26 RXD2/QGPI2/C_CNRX0 (in), U1 ~{CS}0 (out), U2 ~{CS}1 (out), U3 ~{CS}2 (out), U4 ~{CS}3 (out), U23 CLKOUT (out), V1 RD/~{WR} (io), V2 ~{OE} (out), V3 ~{TEA} (io), V4 TSIZ0 (io), V24 EXTCLK (in), V26 ENGCLK/BUCLK (out), W1 TSIZ1 (io), W2 ~{TS} (io), W3 ~{TA} (io), W4 ~{BDIP} (io), W23 ~{HRESET} (io), W24 ~{SRESET} (io), W25 ~{PORESET}/~{RESET} (in), Y1 ~{BURST} (io), Y2 ~{BI}/~{STS} (io), Y3 ADDR/SGPIOA12 (io), Y4 ADDR/SGPIOA11 (io), Y24 ~{IRQ}7/MODCK3 (io), Y25 ~{RSTCONF}/TEXP (io), Y26 VDDSYN (power)
part B pins: A5 A_TPUCH3 (io), A6 A_TPUCH7 (io), A7 A_TPUCH11 (io), A8 A_TPUCH15 (io), A9 VSSA (power), A10 VRL, A11 A_AN3/ANZ/PQB3 (io), A12 A_AN51/PQB7 (io), A13 A_AN55/PQA3 (io), A14 A_AN56/PQA4 (io), A15 B_AN0/ANW/PQB0 (io), A16 B_AN48/PQB4 (io), A17 B_AN52/MA0/PQA0 (io), A18 B_AN56/PQA4 (io), A20 ETRIG2/PCS7 (io), A21 MDA13 (io), A22 MDA28 (io), B5 A_TPUCH2 (io), B6 A_TPUCH6 (io), B7 A_TPUCH10 (io), B8 A_TPUCH14 (io), B9 VSSA (power), B10 ALTREF, B11 A_AN2/ANY/PQB2 (io), B12 A_AN50/PQB6 (io), B13 A_AN54/MA2/PQA2 (io), B14 A_AN58/PQA6 (io), B15 B_AN1/ANX/PQB1 (io), B16 B_AN49/PQB5 (io), B17 B_AN53/MA1/PQA1 (io), B18 B_AN57/PQA5 (io), B20 ETRIG1/PCS6 (io), B21 MDA14 (io), B22 MDA29 (io), C5 A_TPUCH1 (io), C6 A_TPUCH4 (io), C7 A_TPUCH8 (io), C8 A_TPUCH12 (io), C10 VRH, C11 A_AN0/ANW/PQB0 (io), C12 A_AN48/PQB4 (io), C13 A_AN52/MA0/PQA0 (io), C14 A_AN59/PQA7 (io), C15 B_AN2/ANY/PQB2 (io), C16 B_AN50/PQB6 (io), C17 B_AN54/MA2/PQA2 (io), C18 B_AN58/PQA6 (io), C20 MDA11 (io), C21 MDA15 (io), D6 A_TPUCH5 (io), D7 A_TPUCH9 (io), D8 A_TPUCH13 (io), D10 VDDA (power), D11 A_AN1/ANX/PQB1 (io), D12 A_AN49/PQB5 (io), D13 A_AN53/MA1/PQA1 (io), D14 A_AN57/PQA5 (io), D15 B_AN3/ANZ/PQB3 (io), D16 B_AN51/PQB7 (io), D17 B_AN55/PQA3 (io), D18 B_AN59/PQA7 (io), D20 MDA12 (io), D21 MDA27 (io), F1 B_T2CLK/PCS4 (io), F2 A_T2CLK/PCS5 (io), F3 A_TPUCH0 (io), F24 MDA30 (io), F25 MDA31 (io), F26 MPWM0/MDI1 (io), G1 B_TPUCH12 (io), G2 B_TPUCH13 (io), G3 B_TPUCH14 (io), G4 B_TPUCH15 (io), G23 MPWM1/MDO2 (io), G24 MPWM16 (io), G25 MPWM3/PPM_RX1 (io), G26 MPWM2/PPM_TX1 (io), H1 B_TPUCH8 (io), H2 B_TPUCH9 (io), H3 B_TPUCH10 (io), H4 B_TPUCH11 (io), H23 MPWM17/MDO3 (io), H24 MPWM18/MDO6 (io), H25 MPWM19/MDO7 (io), H26 MPIO32B5/MDO5 (io), J1 B_TPUCH4 (io), J2 B_TPUCH5 (io), J3 B_TPUCH6 (io), J4 B_TPUCH7 (io), J23 MPIO32B6/MPWM4/MDO6 (io), J24 MPIO32B7/MPWM5 (io), J25 MPIO32B8/MPWM20 (io), J26 MPIO32B9/MPWM21 (io), K1 B_TPUCH0 (io), K2 B_TPUCH1 (io), K3 B_TPUCH2 (io), K4 B_TPUCH3 (io), K23 MPIO32B12/C_CNTX0 (io), K24 MPIO32B11/C_CNRX0 (io), K25 MPIO32B10/PPM_TSYNC (io), K26 MPIO32B13/PPM_TCLK (io), L3 B_CNRX0 (in), L4 B_CNTX0 (out), L23 VF0/MPIO32B0/MDO1 (io), L24 VF1/MPIO32B1/MCKO (io), L25 MPIO32B15/PPM_TX0 (io), L26 MPIO32B14/PPM_RX0 (io), M23 A_CNTX0 (out), M24 VF2/MPIO32B2/~{MSEI} (io), M25 VFLS0/MPIO32B3/~{MSEO} (io), M26 VFLS1/MPIO32B4 (io), N26 A_CNRX0 (in), T23 EPEE (in), T24 BOEPEE (in), U24 VSSF (power), U25 VDDF (power), U26 VFLASH (power)
part C pins: A1 VDD (power), A2 VSS (power), A3 VSS (power), A4 VSS (power), A19 VSS (power), A23 VSS (power), A24 VSS (power), A25 VDD (power), A26 VSS (power), AA1 VSS (power), AA2 VSS (power), AA3 VSS (power), AA4 QVDDL (power), AA23 VSS (power), AA24 VSS (power), AA25 VSS (power), AB1 VSS (power), AB2 VSS (power), AB3 QVDDL (power), AB4 VSS (power), AB23 QVDDL (power), AB24 VSS (power), AB25 VSS (power), AC1 VSS (power), AC2 QVDDL (power), AC3 VSS (power), AC4 NVDDL (power), AC5 VSS (power), AC10 NVDDL (power), AC15 NVDDL (power), AC19 NVDDL (power), AC21 VSS (power), AC22 VDD (power), AC23 VSS (power), AC24 QVDDL (power), AC25 VSS (power), AD1 QVDDL (power), AD2 VSS (power), AD3 NVDDL (power), AD4 VSS (power), AD5 VSS (power), AD6 QVDDL (power), AD22 VSS (power), AD23 VDD (power), AD24 VSS (power), AD25 QVDDL (power), AE1 VSS (power), AE2 NVDDL (power), AE3 VSS (power), AE4 VSS (power), AE5 VSS (power), AE6 QVDDL (power), AE22 VSS (power), AE23 VSS (power), AE24 VDD (power), AE25 VSS (power), AE26 QVDDL (power), AF1 NVDDL (power), AF2 VSS (power), AF3 VSS (power), AF4 VSS (power), AF5 VDDH (power), AF6 VSS (power), AF21 VDDH (power), AF22 VSS (power), AF23 VSS (power), AF24 VSS (power), AF25 VDD (power), AF26 VSS (power), B1 VSS (power), B2 VDD (power), B3 VSS (power), B4 VSS (power), B19 VSS (power), B23 VSS (power), B24 VDD (power), B25 VSS (power), B26 QVDDL (power), C1 VSS (power), C2 VSS (power), C3 VDD (power), C4 VSS (power), C9 NVDDL (power), C19 VDDH (power), C22 VDDH (power), C23 VDD (power), C24 VSS (power), C25 QVDDL (power), C26 VSS (power), D1 VSS (power), D2 VSS (power), D3 VSS (power), D4 VDD (power), D5 VSS (power), D9 NVDDL (power), D19 VDDH (power), D22 VDD (power), D23 VSS (power), D24 QVDDL (power), D25 VSS (power), D26 VSS (power), E1 VDDH (power), E2 VSS (power), E3 VSS (power), E4 VSS (power), E23 QVDDL (power), E24 VSS (power), E25 VSS (power), E26 VSS (power), F4 QVDDL (power), F23 VDDH (power), L11 VSS (power), L12 VSS (power), L13 VSS (power), L14 VSS (power), L15 VSS (power), L16 VSS (power), M3 VDDSRAM (power), M11 VSS (power), M12 VSS (power), M13 VSS (power), M14 VSS (power), M15 VSS (power), M16 VSS (power), N11 VSS (power), N12 VSS (power), N13 VSS (power), N14 VSS (power), N15 VSS (power), N16 VSS (power), P11 VSS (power), P12 VSS (power), P13 VSS (power), P14 VSS (power), P15 VSS (power), P16 VSS (power), R11 VSS (power), R12 VSS (power), R13 VSS (power), R14 VSS (power), R15 VSS (power), R16 VSS (power), T11 VSS (power), T12 VSS (power), T13 VSS (power), T14 VSS (power), T15 VSS (power), T16 VSS (power), T25 VDDH (power), V23 VDD (power), V25 VSS (power), W26 KAPWR (power), Y23 NVDDL (power)

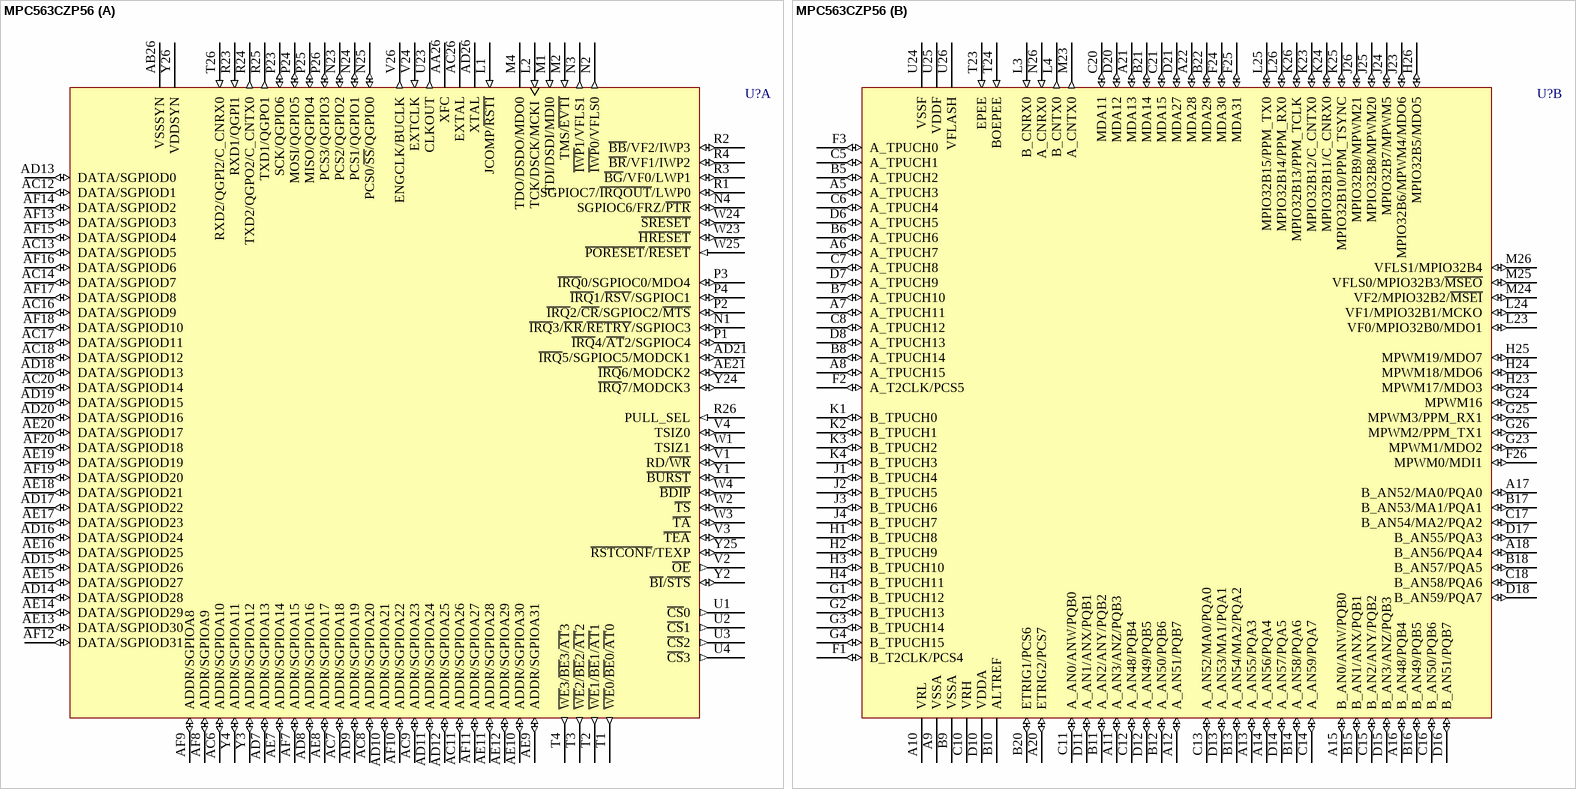
[diagram p219: symbol MPC563CZP56]

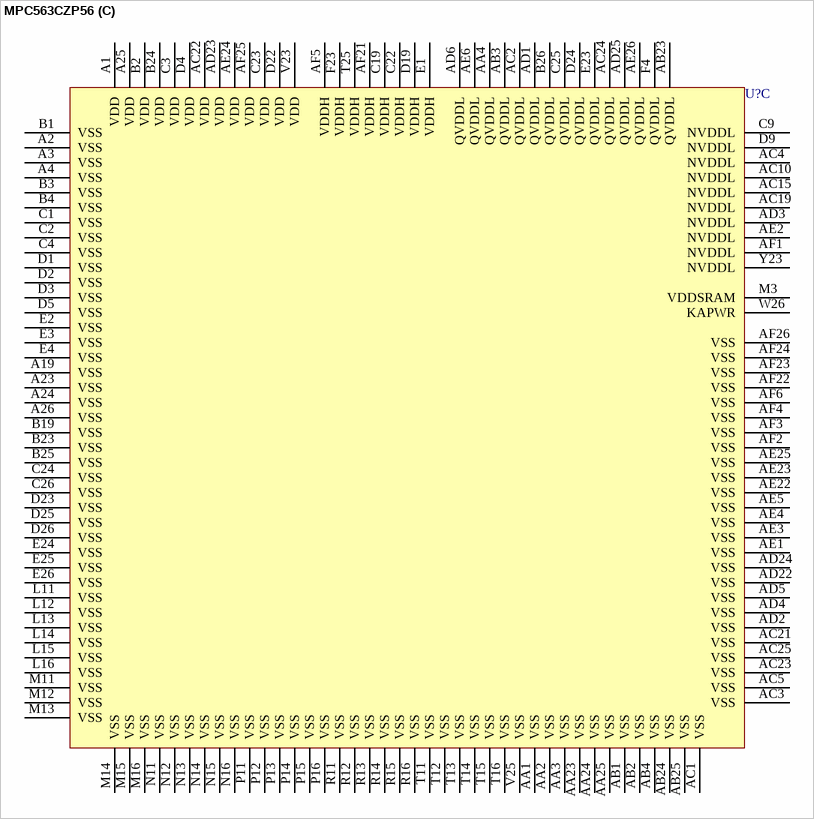
[diagram p220: symbol MPC563CZP56]

## MPC563CZP56
designator U?
32-Bit PowerPC Microcontroller; Published: 21-Mar-2003; LatestRevisionDate: 13-Apr-2006; LatestRevisionNote: IPC-7351 Footprint Added.; DatasheetVersion: 29-Jun-2001; PackageVersion: Jun-2001; PackageReference: 1164-01; Publisher: Altium Limited; PackageDescription: 388-Ball Plastic Ball Grid Array 1 mm Pitch; ComponentLink1Description: Manufacturer Link; ComponentLink1URL: http://www.freescale.com/
footprint 1164-01 (BGA, 388-Leads, Body 27x27mm, Pitch 1mm)
3D model MPC563-1164-01 (388-Ball Plastic Ball Grid Array 1 mm Pitch)
part A pins: AA26 XFC, AB26 VSSSYN (power), AC6 ADDR/SGPIOA10 (io), AC7 ADDR/SGPIOA18 (io), AC8 ADDR/SGPIOA20 (io), AC9 ADDR/SGPIOA23 (io), AC11 ADDR/SGPIOA26 (io), AC12 DATA/SGPIOD1 (io), AC13 DATA/SGPIOD5 (io), AC14 DATA/SGPIOD7 (io), AC16 DATA/SGPIOD9 (io), AC17 DATA/SGPIOD11 (io), AC18 DATA/SGPIOD12 (io), AC20 DATA/SGPIOD14 (io), AC26 EXTAL, AD7 ADDR/SGPIOA13 (io), AD8 ADDR/SGPIOA16 (io), AD9 ADDR/SGPIOA19 (io), AD10 ADDR/SGPIOA21 (io), AD11 ADDR/SGPIOA24 (io), AD12 ADDR/SGPIOA25 (io), AD13 DATA/SGPIOD0 (io), AD14 DATA/SGPIOD28 (io), AD15 DATA/SGPIOD26 (io), AD16 DATA/SGPIOD24 (io), AD17 DATA/SGPIOD22 (io), AD18 DATA/SGPIOD13 (io), AD19 DATA/SGPIOD15 (io), AD20 DATA/SGPIOD16 (io), AD21 ~{IRQ}5/SGPIOC5/MODCK1 (io), AD26 XTAL, AE7 ADDR/SGPIOA14 (io), AE8 ADDR/SGPIOA17 (io), AE9 ADDR/SGPIOA31 (io), AE10 ADDR/SGPIOA30 (io), AE11 ADDR/SGPIOA28 (io), AE12 ADDR/SGPIOA29 (io), AE13 DATA/SGPIOD30 (io), AE14 DATA/SGPIOD29 (io), AE15 DATA/SGPIOD27 (io), AE16 DATA/SGPIOD25 (io), AE17 DATA/SGPIOD23 (io), AE18 DATA/SGPIOD21 (io), AE19 DATA/SGPIOD19 (io), AE20 DATA/SGPIOD17 (io), AE21 ~{IRQ}6/MODCK2 (io), AF7 ADDR/SGPIOA15 (io), AF8 ADDR/SGPIOA9 (io), AF9 ADDR/SGPIOA8 (io), AF10 ADDR/SGPIOA22 (io), AF11 ADDR/SGPIOA27 (io), AF12 DATA/SGPIOD31 (io), AF13 DATA/SGPIOD3 (io), AF14 DATA/SGPIOD2 (io), AF15 DATA/SGPIOD4 (io), AF16 DATA/SGPIOD6 (io), AF17 DATA/SGPIOD8 (io), AF18 DATA/SGPIOD10 (io), AF19 DATA/SGPIOD20 (io), AF20 DATA/SGPIOD18 (io), L1 JCOMP/~{RSTI} (in), L2 TCK/DSCK/MCKI (in), M1 TDI/DSDI/MDI0 (in), M2 TMS/~{EVTI} (in), M4 TDO/DSDO/MDO0 (hiz), N1 ~{IRQ}3/~{KR}/~{RETRY}/SGPIOC3 (io), N2 ~{IWP}0/VFLS0 (out), N3 ~{IWP}1/VFLS1 (out), N4 SGPIOC6/FRZ/~{PTR} (io), N23 PCS2/QGPIO2 (io), N24 PCS1/QGPIO1 (io), N25 PCS0/~{SS}/QGPIO0 (io), P1 ~{IRQ}4/~{AT}2/SGPIOC4 (io), P2 ~{IRQ}2/~{CR}/SGPIOC2/~{MTS} (io), P3 ~{IRQ}0/SGPIOC0/MDO4 (io), P4 ~{IRQ}1/~{RSV}/SGPIOC1 (io), P23 SCK/QGPIO6 (io), P24 MOSI/QGPIO5 (io), P25 MISO/QGPIO4 (io), P26 PCS3/QGPIO3 (io), R1 SGPIOC7/~{IRQOUT}/LWP0 (io), R2 ~{BB}/VF2/IWP3 (io), R3 ~{BG}/VF0/LWP1 (io), R4 ~{BR}/VF1/IWP2 (io), R23 RXD1/QGPI1 (in), R24 TXD2/QGPO2/C_CNTX0 (out), R25 TXD1/QGPO1 (out), R26 PULL_SEL (in), T1 ~{WE}0/~{BE}0/~{AT}0 (out), T2 ~{WE}1/~{BE}1/~{AT}1 (out), T3 ~{WE}2/~{BE}2/~{AT}2 (out), T4 ~{WE}3/~{BE}3/~{AT}3 (out), T26 RXD2/QGPI2/C_CNRX0 (in), U1 ~{CS}0 (out), U2 ~{CS}1 (out), U3 ~{CS}2 (out), U4 ~{CS}3 (out), U23 CLKOUT (out), V1 RD/~{WR} (io), V2 ~{OE} (out), V3 ~{TEA} (io), V4 TSIZ0 (io), V24 EXTCLK (in), V26 ENGCLK/BUCLK (out), W1 TSIZ1 (io), W2 ~{TS} (io), W3 ~{TA} (io), W4 ~{BDIP} (io), W23 ~{HRESET} (io), W24 ~{SRESET} (io), W25 ~{PORESET}/~{RESET} (in), Y1 ~{BURST} (io), Y2 ~{BI}/~{STS} (io), Y3 ADDR/SGPIOA12 (io), Y4 ADDR/SGPIOA11 (io), Y24 ~{IRQ}7/MODCK3 (io), Y25 ~{RSTCONF}/TEXP (io), Y26 VDDSYN (power)
part B pins: A5 A_TPUCH3 (io), A6 A_TPUCH7 (io), A7 A_TPUCH11 (io), A8 A_TPUCH15 (io), A9 VSSA (power), A10 VRL, A11 A_AN3/ANZ/PQB3 (io), A12 A_AN51/PQB7 (io), A13 A_AN55/PQA3 (io), A14 A_AN56/PQA4 (io), A15 B_AN0/ANW/PQB0 (io), A16 B_AN48/PQB4 (io), A17 B_AN52/MA0/PQA0 (io), A18 B_AN56/PQA4 (io), A20 ETRIG2/PCS7 (io), A21 MDA13 (io), A22 MDA28 (io), B5 A_TPUCH2 (io), B6 A_TPUCH6 (io), B7 A_TPUCH10 (io), B8 A_TPUCH14 (io), B9 VSSA (power), B10 ALTREF, B11 A_AN2/ANY/PQB2 (io), B12 A_AN50/PQB6 (io), B13 A_AN54/MA2/PQA2 (io), B14 A_AN58/PQA6 (io), B15 B_AN1/ANX/PQB1 (io), B16 B_AN49/PQB5 (io), B17 B_AN53/MA1/PQA1 (io), B18 B_AN57/PQA5 (io), B20 ETRIG1/PCS6 (io), B21 MDA14 (io), B22 MDA29 (io), C5 A_TPUCH1 (io), C6 A_TPUCH4 (io), C7 A_TPUCH8 (io), C8 A_TPUCH12 (io), C10 VRH, C11 A_AN0/ANW/PQB0 (io), C12 A_AN48/PQB4 (io), C13 A_AN52/MA0/PQA0 (io), C14 A_AN59/PQA7 (io), C15 B_AN2/ANY/PQB2 (io), C16 B_AN50/PQB6 (io), C17 B_AN54/MA2/PQA2 (io), C18 B_AN58/PQA6 (io), C20 MDA11 (io), C21 MDA15 (io), D6 A_TPUCH5 (io), D7 A_TPUCH9 (io), D8 A_TPUCH13 (io), D10 VDDA (power), D11 A_AN1/ANX/PQB1 (io), D12 A_AN49/PQB5 (io), D13 A_AN53/MA1/PQA1 (io), D14 A_AN57/PQA5 (io), D15 B_AN3/ANZ/PQB3 (io), D16 B_AN51/PQB7 (io), D17 B_AN55/PQA3 (io), D18 B_AN59/PQA7 (io), D20 MDA12 (io), D21 MDA27 (io), F1 B_T2CLK/PCS4 (io), F2 A_T2CLK/PCS5 (io), F3 A_TPUCH0 (io), F24 MDA30 (io), F25 MDA31 (io), F26 MPWM0/MDI1 (io), G1 B_TPUCH12 (io), G2 B_TPUCH13 (io), G3 B_TPUCH14 (io), G4 B_TPUCH15 (io), G23 MPWM1/MDO2 (io), G24 MPWM16 (io), G25 MPWM3/PPM_RX1 (io), G26 MPWM2/PPM_TX1 (io), H1 B_TPUCH8 (io), H2 B_TPUCH9 (io), H3 B_TPUCH10 (io), H4 B_TPUCH11 (io), H23 MPWM17/MDO3 (io), H24 MPWM18/MDO6 (io), H25 MPWM19/MDO7 (io), H26 MPIO32B5/MDO5 (io), J1 B_TPUCH4 (io), J2 B_TPUCH5 (io), J3 B_TPUCH6 (io), J4 B_TPUCH7 (io), J23 MPIO32B6/MPWM4/MDO6 (io), J24 MPIO32B7/MPWM5 (io), J25 MPIO32B8/MPWM20 (io), J26 MPIO32B9/MPWM21 (io), K1 B_TPUCH0 (io), K2 B_TPUCH1 (io), K3 B_TPUCH2 (io), K4 B_TPUCH3 (io), K23 MPIO32B12/C_CNTX0 (io), K24 MPIO32B11/C_CNRX0 (io), K25 MPIO32B10/PPM_TSYNC (io), K26 MPIO32B13/PPM_TCLK (io), L3 B_CNRX0 (in), L4 B_CNTX0 (out), L23 VF0/MPIO32B0/MDO1 (io), L24 VF1/MPIO32B1/MCKO (io), L25 MPIO32B15/PPM_TX0 (io), L26 MPIO32B14/PPM_RX0 (io), M23 A_CNTX0 (out), M24 VF2/MPIO32B2/~{MSEI} (io), M25 VFLS0/MPIO32B3/~{MSEO} (io), M26 VFLS1/MPIO32B4 (io), N26 A_CNRX0 (in), T23 EPEE (in), T24 BOEPEE (in), U24 VSSF (power), U25 VDDF (power), U26 VFLASH (power)
part C pins: A1 VDD (power), A2 VSS (power), A3 VSS (power), A4 VSS (power), A19 VSS (power), A23 VSS (power), A24 VSS (power), A25 VDD (power), A26 VSS (power), AA1 VSS (power), AA2 VSS (power), AA3 VSS (power), AA4 QVDDL (power), AA23 VSS (power), AA24 VSS (power), AA25 VSS (power), AB1 VSS (power), AB2 VSS (power), AB3 QVDDL (power), AB4 VSS (power), AB23 QVDDL (power), AB24 VSS (power), AB25 VSS (power), AC1 VSS (power), AC2 QVDDL (power), AC3 VSS (power), AC4 NVDDL (power), AC5 VSS (power), AC10 NVDDL (power), AC15 NVDDL (power), AC19 NVDDL (power), AC21 VSS (power), AC22 VDD (power), AC23 VSS (power), AC24 QVDDL (power), AC25 VSS (power), AD1 QVDDL (power), AD2 VSS (power), AD3 NVDDL (power), AD4 VSS (power), AD5 VSS (power), AD6 QVDDL (power), AD22 VSS (power), AD23 VDD (power), AD24 VSS (power), AD25 QVDDL (power), AE1 VSS (power), AE2 NVDDL (power), AE3 VSS (power), AE4 VSS (power), AE5 VSS (power), AE6 QVDDL (power), AE22 VSS (power), AE23 VSS (power), AE24 VDD (power), AE25 VSS (power), AE26 QVDDL (power), AF1 NVDDL (power), AF2 VSS (power), AF3 VSS (power), AF4 VSS (power), AF5 VDDH (power), AF6 VSS (power), AF21 VDDH (power), AF22 VSS (power), AF23 VSS (power), AF24 VSS (power), AF25 VDD (power), AF26 VSS (power), B1 VSS (power), B2 VDD (power), B3 VSS (power), B4 VSS (power), B19 VSS (power), B23 VSS (power), B24 VDD (power), B25 VSS (power), B26 QVDDL (power), C1 VSS (power), C2 VSS (power), C3 VDD (power), C4 VSS (power), C9 NVDDL (power), C19 VDDH (power), C22 VDDH (power), C23 VDD (power), C24 VSS (power), C25 QVDDL (power), C26 VSS (power), D1 VSS (power), D2 VSS (power), D3 VSS (power), D4 VDD (power), D5 VSS (power), D9 NVDDL (power), D19 VDDH (power), D22 VDD (power), D23 VSS (power), D24 QVDDL (power), D25 VSS (power), D26 VSS (power), E1 VDDH (power), E2 VSS (power), E3 VSS (power), E4 VSS (power), E23 QVDDL (power), E24 VSS (power), E25 VSS (power), E26 VSS (power), F4 QVDDL (power), F23 VDDH (power), L11 VSS (power), L12 VSS (power), L13 VSS (power), L14 VSS (power), L15 VSS (power), L16 VSS (power), M3 VDDSRAM (power), M11 VSS (power), M12 VSS (power), M13 VSS (power), M14 VSS (power), M15 VSS (power), M16 VSS (power), N11 VSS (power), N12 VSS (power), N13 VSS (power), N14 VSS (power), N15 VSS (power), N16 VSS (power), P11 VSS (power), P12 VSS (power), P13 VSS (power), P14 VSS (power), P15 VSS (power), P16 VSS (power), R11 VSS (power), R12 VSS (power), R13 VSS (power), R14 VSS (power), R15 VSS (power), R16 VSS (power), T11 VSS (power), T12 VSS (power), T13 VSS (power), T14 VSS (power), T15 VSS (power), T16 VSS (power), T25 VDDH (power), V23 VDD (power), V25 VSS (power), W26 KAPWR (power), Y23 NVDDL (power)

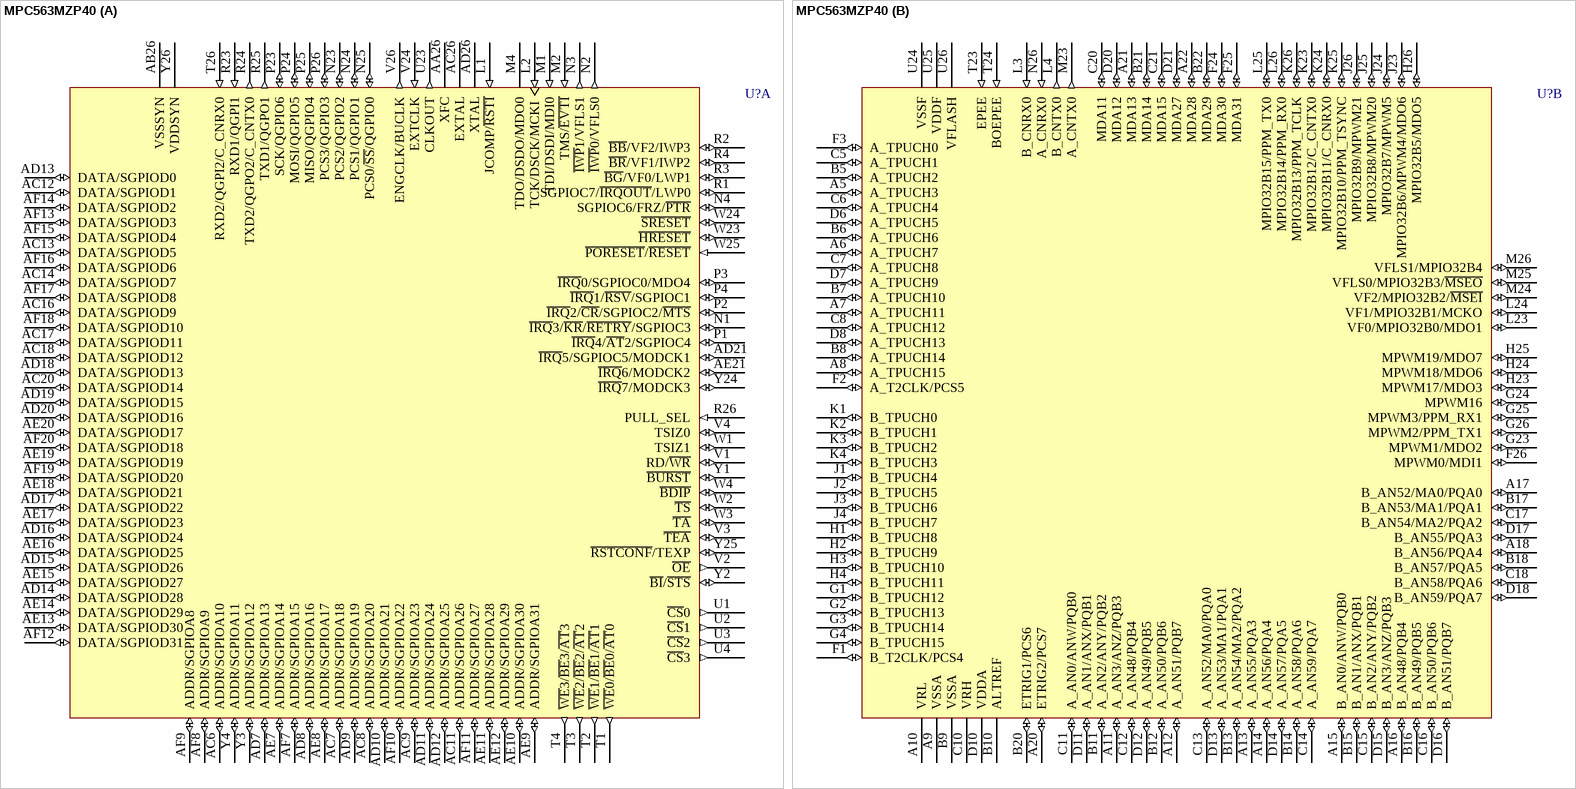
[diagram p221: symbol MPC563MZP40]

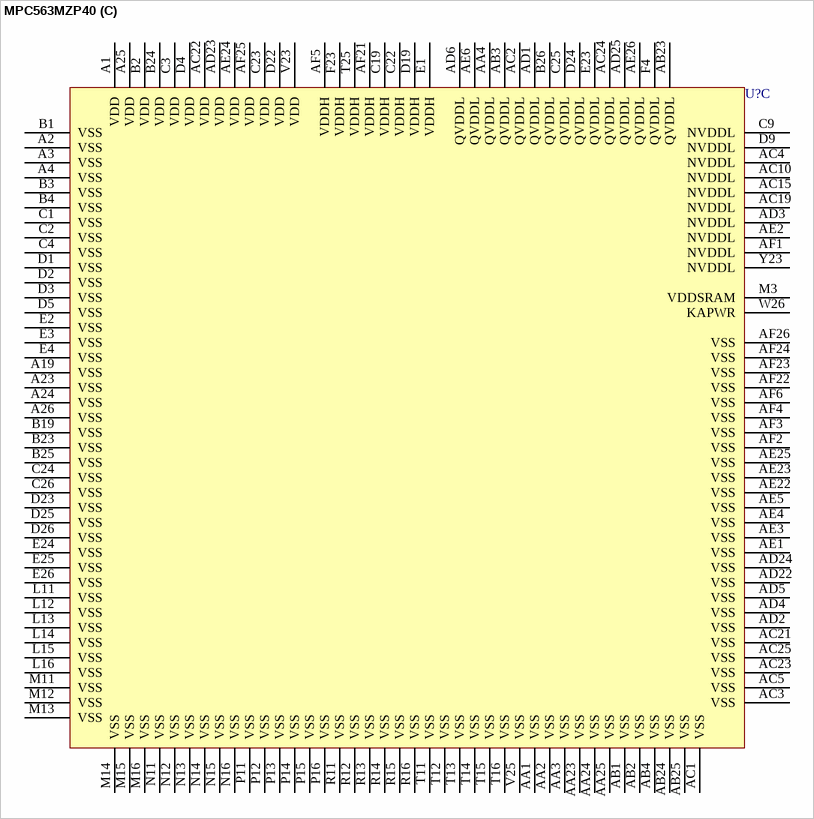
[diagram p222: symbol MPC563MZP40]

## MPC563MZP40
designator U?
32-Bit PowerPC Microcontroller; Published: 21-Mar-2003; LatestRevisionDate: 13-Apr-2006; LatestRevisionNote: IPC-7351 Footprint Added.; DatasheetVersion: 29-Jun-2001; PackageVersion: Jun-2001; PackageReference: 1164-01; Publisher: Altium Limited; PackageDescription: 388-Ball Plastic Ball Grid Array 1 mm Pitch; ComponentLink1Description: Manufacturer Link; ComponentLink1URL: http://www.freescale.com/
footprint 1164-01 (BGA, 388-Leads, Body 27x27mm, Pitch 1mm)
3D model MPC563-1164-01 (388-Ball Plastic Ball Grid Array 1 mm Pitch)
part A pins: AA26 XFC, AB26 VSSSYN (power), AC6 ADDR/SGPIOA10 (io), AC7 ADDR/SGPIOA18 (io), AC8 ADDR/SGPIOA20 (io), AC9 ADDR/SGPIOA23 (io), AC11 ADDR/SGPIOA26 (io), AC12 DATA/SGPIOD1 (io), AC13 DATA/SGPIOD5 (io), AC14 DATA/SGPIOD7 (io), AC16 DATA/SGPIOD9 (io), AC17 DATA/SGPIOD11 (io), AC18 DATA/SGPIOD12 (io), AC20 DATA/SGPIOD14 (io), AC26 EXTAL, AD7 ADDR/SGPIOA13 (io), AD8 ADDR/SGPIOA16 (io), AD9 ADDR/SGPIOA19 (io), AD10 ADDR/SGPIOA21 (io), AD11 ADDR/SGPIOA24 (io), AD12 ADDR/SGPIOA25 (io), AD13 DATA/SGPIOD0 (io), AD14 DATA/SGPIOD28 (io), AD15 DATA/SGPIOD26 (io), AD16 DATA/SGPIOD24 (io), AD17 DATA/SGPIOD22 (io), AD18 DATA/SGPIOD13 (io), AD19 DATA/SGPIOD15 (io), AD20 DATA/SGPIOD16 (io), AD21 ~{IRQ}5/SGPIOC5/MODCK1 (io), AD26 XTAL, AE7 ADDR/SGPIOA14 (io), AE8 ADDR/SGPIOA17 (io), AE9 ADDR/SGPIOA31 (io), AE10 ADDR/SGPIOA30 (io), AE11 ADDR/SGPIOA28 (io), AE12 ADDR/SGPIOA29 (io), AE13 DATA/SGPIOD30 (io), AE14 DATA/SGPIOD29 (io), AE15 DATA/SGPIOD27 (io), AE16 DATA/SGPIOD25 (io), AE17 DATA/SGPIOD23 (io), AE18 DATA/SGPIOD21 (io), AE19 DATA/SGPIOD19 (io), AE20 DATA/SGPIOD17 (io), AE21 ~{IRQ}6/MODCK2 (io), AF7 ADDR/SGPIOA15 (io), AF8 ADDR/SGPIOA9 (io), AF9 ADDR/SGPIOA8 (io), AF10 ADDR/SGPIOA22 (io), AF11 ADDR/SGPIOA27 (io), AF12 DATA/SGPIOD31 (io), AF13 DATA/SGPIOD3 (io), AF14 DATA/SGPIOD2 (io), AF15 DATA/SGPIOD4 (io), AF16 DATA/SGPIOD6 (io), AF17 DATA/SGPIOD8 (io), AF18 DATA/SGPIOD10 (io), AF19 DATA/SGPIOD20 (io), AF20 DATA/SGPIOD18 (io), L1 JCOMP/~{RSTI} (in), L2 TCK/DSCK/MCKI (in), M1 TDI/DSDI/MDI0 (in), M2 TMS/~{EVTI} (in), M4 TDO/DSDO/MDO0 (hiz), N1 ~{IRQ}3/~{KR}/~{RETRY}/SGPIOC3 (io), N2 ~{IWP}0/VFLS0 (out), N3 ~{IWP}1/VFLS1 (out), N4 SGPIOC6/FRZ/~{PTR} (io), N23 PCS2/QGPIO2 (io), N24 PCS1/QGPIO1 (io), N25 PCS0/~{SS}/QGPIO0 (io), P1 ~{IRQ}4/~{AT}2/SGPIOC4 (io), P2 ~{IRQ}2/~{CR}/SGPIOC2/~{MTS} (io), P3 ~{IRQ}0/SGPIOC0/MDO4 (io), P4 ~{IRQ}1/~{RSV}/SGPIOC1 (io), P23 SCK/QGPIO6 (io), P24 MOSI/QGPIO5 (io), P25 MISO/QGPIO4 (io), P26 PCS3/QGPIO3 (io), R1 SGPIOC7/~{IRQOUT}/LWP0 (io), R2 ~{BB}/VF2/IWP3 (io), R3 ~{BG}/VF0/LWP1 (io), R4 ~{BR}/VF1/IWP2 (io), R23 RXD1/QGPI1 (in), R24 TXD2/QGPO2/C_CNTX0 (out), R25 TXD1/QGPO1 (out), R26 PULL_SEL (in), T1 ~{WE}0/~{BE}0/~{AT}0 (out), T2 ~{WE}1/~{BE}1/~{AT}1 (out), T3 ~{WE}2/~{BE}2/~{AT}2 (out), T4 ~{WE}3/~{BE}3/~{AT}3 (out), T26 RXD2/QGPI2/C_CNRX0 (in), U1 ~{CS}0 (out), U2 ~{CS}1 (out), U3 ~{CS}2 (out), U4 ~{CS}3 (out), U23 CLKOUT (out), V1 RD/~{WR} (io), V2 ~{OE} (out), V3 ~{TEA} (io), V4 TSIZ0 (io), V24 EXTCLK (in), V26 ENGCLK/BUCLK (out), W1 TSIZ1 (io), W2 ~{TS} (io), W3 ~{TA} (io), W4 ~{BDIP} (io), W23 ~{HRESET} (io), W24 ~{SRESET} (io), W25 ~{PORESET}/~{RESET} (in), Y1 ~{BURST} (io), Y2 ~{BI}/~{STS} (io), Y3 ADDR/SGPIOA12 (io), Y4 ADDR/SGPIOA11 (io), Y24 ~{IRQ}7/MODCK3 (io), Y25 ~{RSTCONF}/TEXP (io), Y26 VDDSYN (power)
part B pins: A5 A_TPUCH3 (io), A6 A_TPUCH7 (io), A7 A_TPUCH11 (io), A8 A_TPUCH15 (io), A9 VSSA (power), A10 VRL, A11 A_AN3/ANZ/PQB3 (io), A12 A_AN51/PQB7 (io), A13 A_AN55/PQA3 (io), A14 A_AN56/PQA4 (io), A15 B_AN0/ANW/PQB0 (io), A16 B_AN48/PQB4 (io), A17 B_AN52/MA0/PQA0 (io), A18 B_AN56/PQA4 (io), A20 ETRIG2/PCS7 (io), A21 MDA13 (io), A22 MDA28 (io), B5 A_TPUCH2 (io), B6 A_TPUCH6 (io), B7 A_TPUCH10 (io), B8 A_TPUCH14 (io), B9 VSSA (power), B10 ALTREF, B11 A_AN2/ANY/PQB2 (io), B12 A_AN50/PQB6 (io), B13 A_AN54/MA2/PQA2 (io), B14 A_AN58/PQA6 (io), B15 B_AN1/ANX/PQB1 (io), B16 B_AN49/PQB5 (io), B17 B_AN53/MA1/PQA1 (io), B18 B_AN57/PQA5 (io), B20 ETRIG1/PCS6 (io), B21 MDA14 (io), B22 MDA29 (io), C5 A_TPUCH1 (io), C6 A_TPUCH4 (io), C7 A_TPUCH8 (io), C8 A_TPUCH12 (io), C10 VRH, C11 A_AN0/ANW/PQB0 (io), C12 A_AN48/PQB4 (io), C13 A_AN52/MA0/PQA0 (io), C14 A_AN59/PQA7 (io), C15 B_AN2/ANY/PQB2 (io), C16 B_AN50/PQB6 (io), C17 B_AN54/MA2/PQA2 (io), C18 B_AN58/PQA6 (io), C20 MDA11 (io), C21 MDA15 (io), D6 A_TPUCH5 (io), D7 A_TPUCH9 (io), D8 A_TPUCH13 (io), D10 VDDA (power), D11 A_AN1/ANX/PQB1 (io), D12 A_AN49/PQB5 (io), D13 A_AN53/MA1/PQA1 (io), D14 A_AN57/PQA5 (io), D15 B_AN3/ANZ/PQB3 (io), D16 B_AN51/PQB7 (io), D17 B_AN55/PQA3 (io), D18 B_AN59/PQA7 (io), D20 MDA12 (io), D21 MDA27 (io), F1 B_T2CLK/PCS4 (io), F2 A_T2CLK/PCS5 (io), F3 A_TPUCH0 (io), F24 MDA30 (io), F25 MDA31 (io), F26 MPWM0/MDI1 (io), G1 B_TPUCH12 (io), G2 B_TPUCH13 (io), G3 B_TPUCH14 (io), G4 B_TPUCH15 (io), G23 MPWM1/MDO2 (io), G24 MPWM16 (io), G25 MPWM3/PPM_RX1 (io), G26 MPWM2/PPM_TX1 (io), H1 B_TPUCH8 (io), H2 B_TPUCH9 (io), H3 B_TPUCH10 (io), H4 B_TPUCH11 (io), H23 MPWM17/MDO3 (io), H24 MPWM18/MDO6 (io), H25 MPWM19/MDO7 (io), H26 MPIO32B5/MDO5 (io), J1 B_TPUCH4 (io), J2 B_TPUCH5 (io), J3 B_TPUCH6 (io), J4 B_TPUCH7 (io), J23 MPIO32B6/MPWM4/MDO6 (io), J24 MPIO32B7/MPWM5 (io), J25 MPIO32B8/MPWM20 (io), J26 MPIO32B9/MPWM21 (io), K1 B_TPUCH0 (io), K2 B_TPUCH1 (io), K3 B_TPUCH2 (io), K4 B_TPUCH3 (io), K23 MPIO32B12/C_CNTX0 (io), K24 MPIO32B11/C_CNRX0 (io), K25 MPIO32B10/PPM_TSYNC (io), K26 MPIO32B13/PPM_TCLK (io), L3 B_CNRX0 (in), L4 B_CNTX0 (out), L23 VF0/MPIO32B0/MDO1 (io), L24 VF1/MPIO32B1/MCKO (io), L25 MPIO32B15/PPM_TX0 (io), L26 MPIO32B14/PPM_RX0 (io), M23 A_CNTX0 (out), M24 VF2/MPIO32B2/~{MSEI} (io), M25 VFLS0/MPIO32B3/~{MSEO} (io), M26 VFLS1/MPIO32B4 (io), N26 A_CNRX0 (in), T23 EPEE (in), T24 BOEPEE (in), U24 VSSF (power), U25 VDDF (power), U26 VFLASH (power)
part C pins: A1 VDD (power), A2 VSS (power), A3 VSS (power), A4 VSS (power), A19 VSS (power), A23 VSS (power), A24 VSS (power), A25 VDD (power), A26 VSS (power), AA1 VSS (power), AA2 VSS (power), AA3 VSS (power), AA4 QVDDL (power), AA23 VSS (power), AA24 VSS (power), AA25 VSS (power), AB1 VSS (power), AB2 VSS (power), AB3 QVDDL (power), AB4 VSS (power), AB23 QVDDL (power), AB24 VSS (power), AB25 VSS (power), AC1 VSS (power), AC2 QVDDL (power), AC3 VSS (power), AC4 NVDDL (power), AC5 VSS (power), AC10 NVDDL (power), AC15 NVDDL (power), AC19 NVDDL (power), AC21 VSS (power), AC22 VDD (power), AC23 VSS (power), AC24 QVDDL (power), AC25 VSS (power), AD1 QVDDL (power), AD2 VSS (power), AD3 NVDDL (power), AD4 VSS (power), AD5 VSS (power), AD6 QVDDL (power), AD22 VSS (power), AD23 VDD (power), AD24 VSS (power), AD25 QVDDL (power), AE1 VSS (power), AE2 NVDDL (power), AE3 VSS (power), AE4 VSS (power), AE5 VSS (power), AE6 QVDDL (power), AE22 VSS (power), AE23 VSS (power), AE24 VDD (power), AE25 VSS (power), AE26 QVDDL (power), AF1 NVDDL (power), AF2 VSS (power), AF3 VSS (power), AF4 VSS (power), AF5 VDDH (power), AF6 VSS (power), AF21 VDDH (power), AF22 VSS (power), AF23 VSS (power), AF24 VSS (power), AF25 VDD (power), AF26 VSS (power), B1 VSS (power), B2 VDD (power), B3 VSS (power), B4 VSS (power), B19 VSS (power), B23 VSS (power), B24 VDD (power), B25 VSS (power), B26 QVDDL (power), C1 VSS (power), C2 VSS (power), C3 VDD (power), C4 VSS (power), C9 NVDDL (power), C19 VDDH (power), C22 VDDH (power), C23 VDD (power), C24 VSS (power), C25 QVDDL (power), C26 VSS (power), D1 VSS (power), D2 VSS (power), D3 VSS (power), D4 VDD (power), D5 VSS (power), D9 NVDDL (power), D19 VDDH (power), D22 VDD (power), D23 VSS (power), D24 QVDDL (power), D25 VSS (power), D26 VSS (power), E1 VDDH (power), E2 VSS (power), E3 VSS (power), E4 VSS (power), E23 QVDDL (power), E24 VSS (power), E25 VSS (power), E26 VSS (power), F4 QVDDL (power), F23 VDDH (power), L11 VSS (power), L12 VSS (power), L13 VSS (power), L14 VSS (power), L15 VSS (power), L16 VSS (power), M3 VDDSRAM (power), M11 VSS (power), M12 VSS (power), M13 VSS (power), M14 VSS (power), M15 VSS (power), M16 VSS (power), N11 VSS (power), N12 VSS (power), N13 VSS (power), N14 VSS (power), N15 VSS (power), N16 VSS (power), P11 VSS (power), P12 VSS (power), P13 VSS (power), P14 VSS (power), P15 VSS (power), P16 VSS (power), R11 VSS (power), R12 VSS (power), R13 VSS (power), R14 VSS (power), R15 VSS (power), R16 VSS (power), T11 VSS (power), T12 VSS (power), T13 VSS (power), T14 VSS (power), T15 VSS (power), T16 VSS (power), T25 VDDH (power), V23 VDD (power), V25 VSS (power), W26 KAPWR (power), Y23 NVDDL (power)

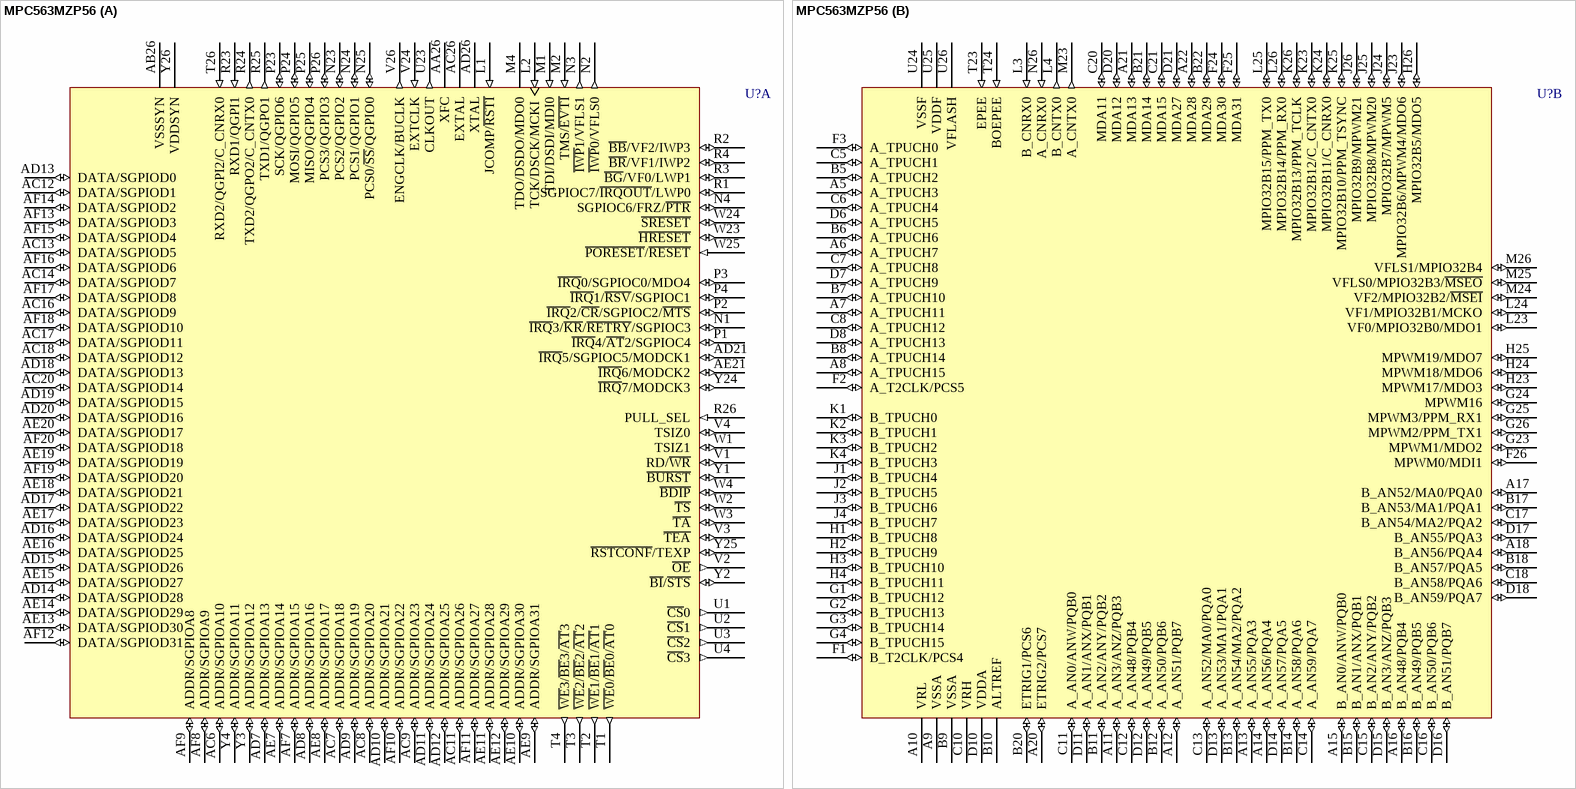
[diagram p223: symbol MPC563MZP56]

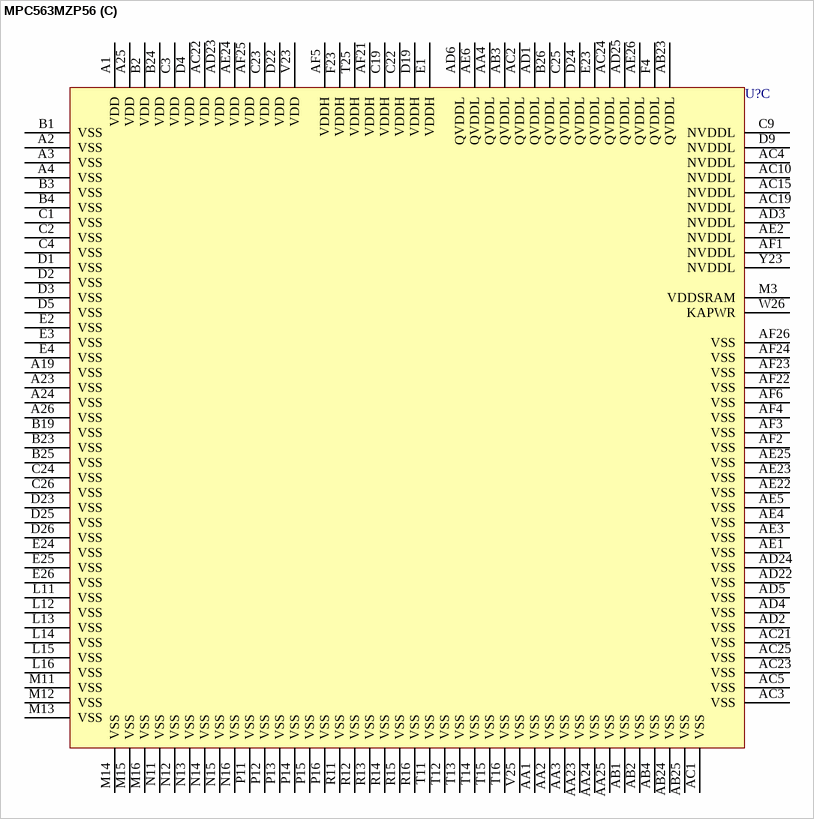
[diagram p224: symbol MPC563MZP56]